# Altium integrated library Altera Cyclone IV GX.IntLib: 21 symbols (part 3 of 3)
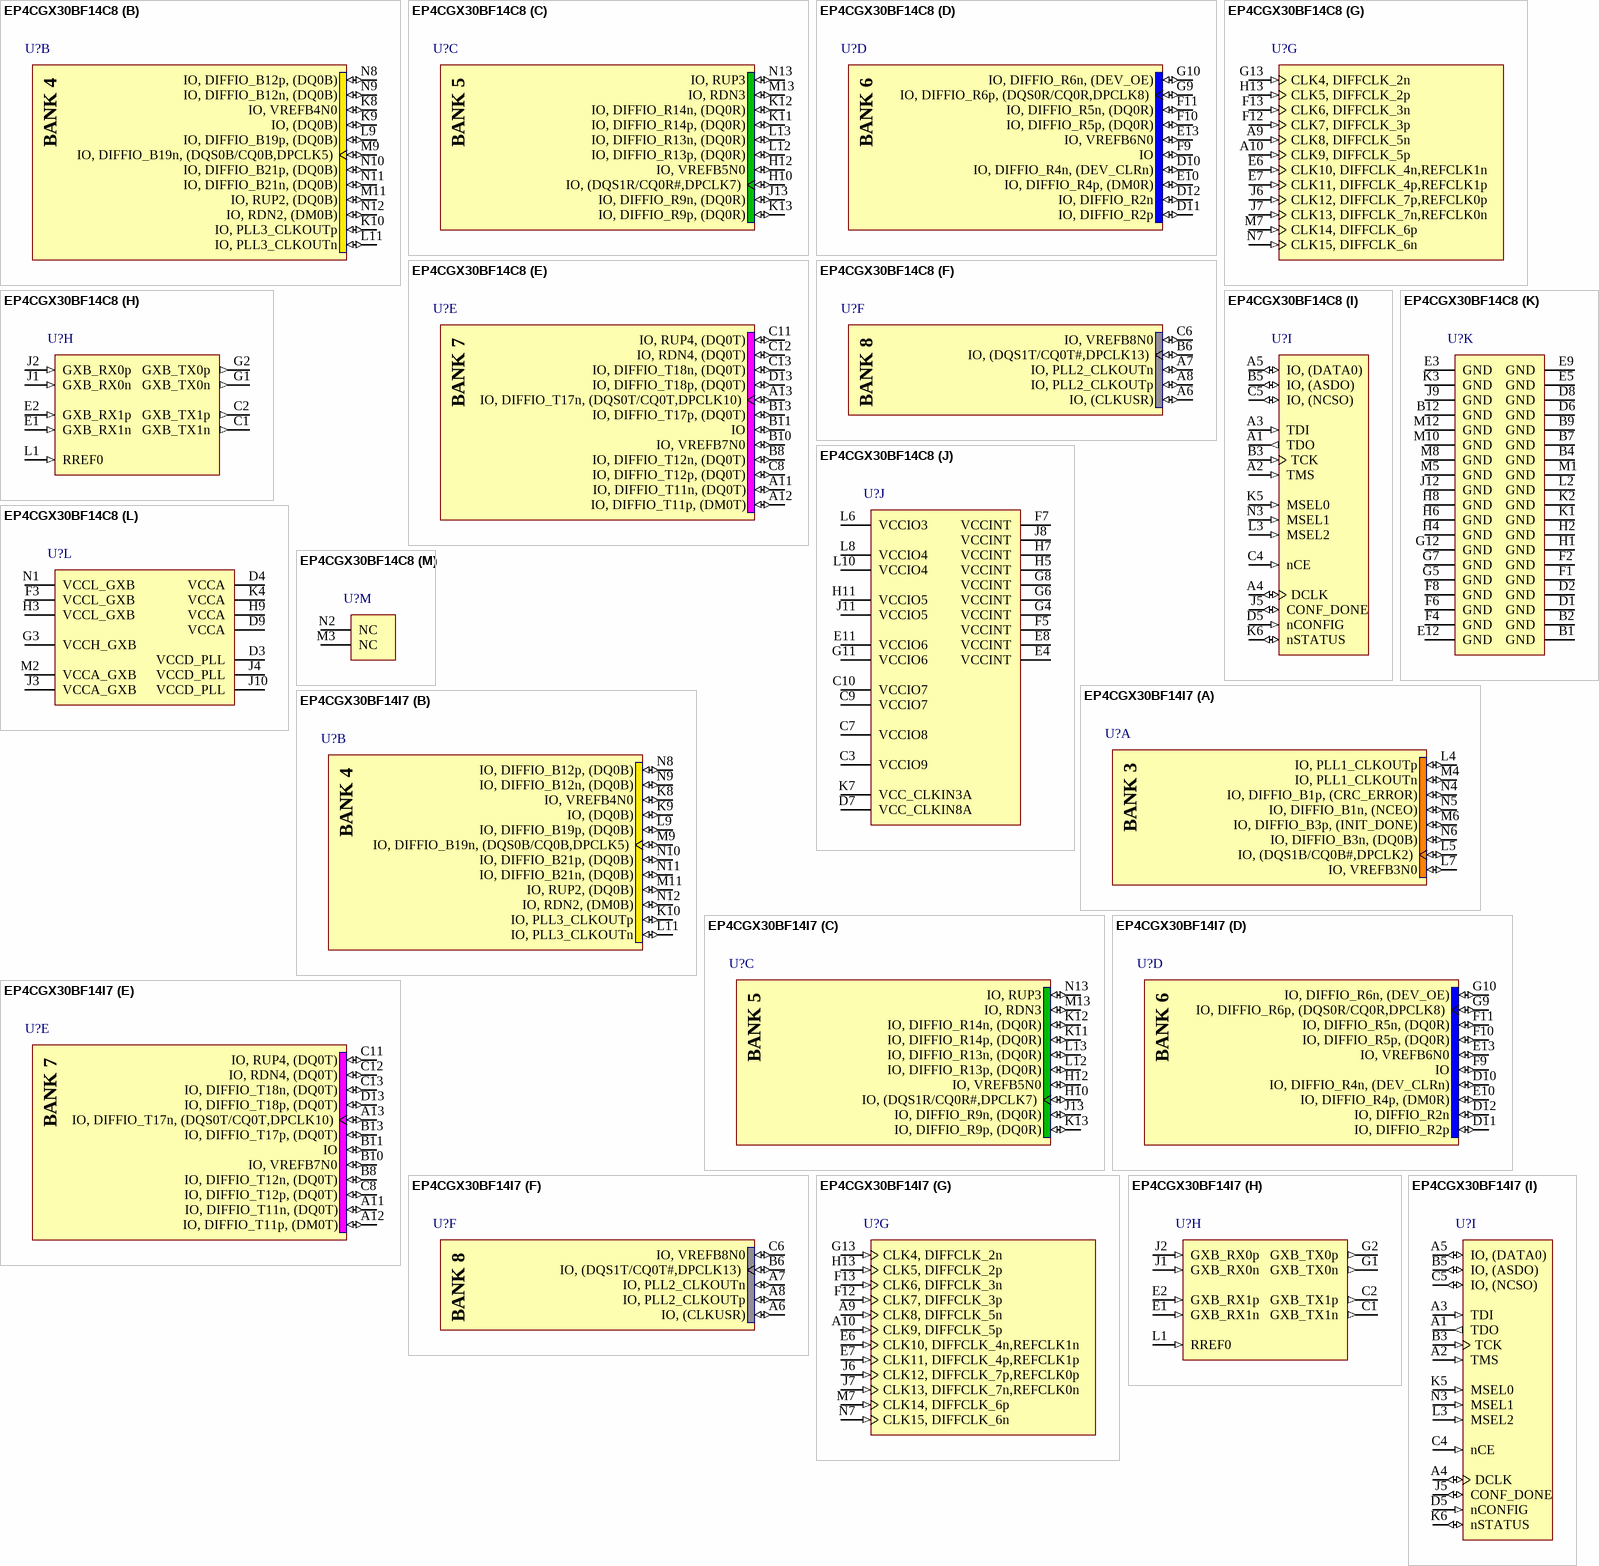
[diagram p18: symbols EP4CGX30BF14C8 to EP4CGX30BF14I7]

## EP4CGX30BF14C8
designator U?
Cyclone IV Family FPGA, 2V Core, 72 I/O Pins, 4 PLLs, 2 High-Speed Transceivers, 169-Pin FBGA, Speed Grade 8, Commercial Grade; Published: 3-May-2010; DatasheetVersion: ver1.2, Mar-2010; PackageVersion: ver16.0, Dec-2009; PackageReference: FBGA169; Publisher: Altium Limited; PackageDescription: 169-Ball FineLine Ball Grid Array (FBGA169) - Wire Bond; ComponentLink1Description: Manufacturer Link; ComponentLink1URL: http://www.altera.com/; ComponentLink2Description: Handbook; ComponentLink2URL: http://www.altera.com/literature/hb/cyclone-iv/cyclone4-handbook.pdf; ComponentLink3Description: Pinout Specification; ComponentLink3URL: http://www.altera.com/literature/lit-dp.jsp?category=cyc%204&showspreadsheet=y; ComponentLink4Description: Packaging Specification; ComponentLink4URL: http://www.altera.com/literature/ds/dspkg.pdf
footprint FBGA169 (BGA, 169-Leads, Body 14x14mm, Pitch 1mm)
signal-integrity model EP4CGX_F169 (Cyclone IV)
part A pins: L4 IO, PLL1_CLKOUTp (io), L5 IO, (DQS1B/CQ0B#,DPCLK2) (io), L7 IO, VREFB3N0 (io), M4 IO, PLL1_CLKOUTn (io), M6 IO, DIFFIO_B3p, (INIT_DONE) (io), N4 IO, DIFFIO_B1p, (CRC_ERROR) (io), N5 IO, DIFFIO_B1n, (NCEO) (io), N6 IO, DIFFIO_B3n, (DQ0B) (io)
part B pins: K8 IO, VREFB4N0 (io), K9 IO, (DQ0B) (io), K10 IO, PLL3_CLKOUTp (io), L9 IO, DIFFIO_B19p, (DQ0B) (io), L11 IO, PLL3_CLKOUTn (io), M9 IO, DIFFIO_B19n, (DQS0B/CQ0B,DPCLK5) (io), M11 IO, RUP2, (DQ0B) (io), N8 IO, DIFFIO_B12p, (DQ0B) (io), N9 IO, DIFFIO_B12n, (DQ0B) (io), N10 IO, DIFFIO_B21p, (DQ0B) (io), N11 IO, DIFFIO_B21n, (DQ0B) (io), N12 IO, RDN2, (DM0B) (io)
part C pins: H10 IO, (DQS1R/CQ0R#,DPCLK7) (io), H12 IO, VREFB5N0 (io), J13 IO, DIFFIO_R9n, (DQ0R) (io), K11 IO, DIFFIO_R14p, (DQ0R) (io), K12 IO, DIFFIO_R14n, (DQ0R) (io), K13 IO, DIFFIO_R9p, (DQ0R) (io), L12 IO, DIFFIO_R13p, (DQ0R) (io), L13 IO, DIFFIO_R13n, (DQ0R) (io), M13 IO, RDN3 (io), N13 IO, RUP3 (io)
part D pins: D10 IO, DIFFIO_R4n, (DEV_CLRn) (io), D11 IO, DIFFIO_R2p (io), D12 IO, DIFFIO_R2n (io), E10 IO, DIFFIO_R4p, (DM0R) (io), E13 IO, VREFB6N0 (io), F9 IO (io), F10 IO, DIFFIO_R5p, (DQ0R) (io), F11 IO, DIFFIO_R5n, (DQ0R) (io), G9 IO, DIFFIO_R6p, (DQS0R/CQ0R,DPCLK8) (io), G10 IO, DIFFIO_R6n, (DEV_OE) (io)
part E pins: A11 IO, DIFFIO_T11n, (DQ0T) (io), A12 IO, DIFFIO_T11p, (DM0T) (io), A13 IO, DIFFIO_T17n, (DQS0T/CQ0T,DPCLK10) (io), B8 IO, DIFFIO_T12n, (DQ0T) (io), B10 IO, VREFB7N0 (io), B11 IO (io), B13 IO, DIFFIO_T17p, (DQ0T) (io), C8 IO, DIFFIO_T12p, (DQ0T) (io), C11 IO, RUP4, (DQ0T) (io), C12 IO, RDN4, (DQ0T) (io), C13 IO, DIFFIO_T18n, (DQ0T) (io), D13 IO, DIFFIO_T18p, (DQ0T) (io)
part F pins: A6 IO, (CLKUSR) (io), A7 IO, PLL2_CLKOUTn (io), A8 IO, PLL2_CLKOUTp (io), B6 IO, (DQS1T/CQ0T#,DPCLK13) (io), C6 IO, VREFB8N0 (io)
part G pins: A9 CLK8, DIFFCLK_5n (in), A10 CLK9, DIFFCLK_5p (in), E6 CLK10, DIFFCLK_4n,REFCLK1n (in), E7 CLK11, DIFFCLK_4p,REFCLK1p (in), F12 CLK7, DIFFCLK_3p (in), F13 CLK6, DIFFCLK_3n (in), G13 CLK4, DIFFCLK_2n (in), H13 CLK5, DIFFCLK_2p (in), J6 CLK12, DIFFCLK_7p,REFCLK0p (in), J7 CLK13, DIFFCLK_7n,REFCLK0n (in), M7 CLK14, DIFFCLK_6p (in), N7 CLK15, DIFFCLK_6n (in)
part H pins: C1 GXB_TX1n (out), C2 GXB_TX1p (out), E1 GXB_RX1n (in), E2 GXB_RX1p (in), G1 GXB_TX0n (out), G2 GXB_TX0p (out), J1 GXB_RX0n (in), J2 GXB_RX0p (in), L1 RREF0 (in)
part I pins: A1 TDO (out), A2 TMS (in), A3 TDI (in), A4 DCLK (io), A5 IO, (DATA0) (io), B3 TCK (in), B5 IO, (ASDO) (io), C4 nCE (in), C5 IO, (NCSO) (io), D5 nCONFIG (in), J5 CONF_DONE (io), K5 MSEL0 (in), K6 nSTATUS (io), L3 MSEL2 (in), N3 MSEL1 (in)
part J pins: C3 VCCIO9 (power), C7 VCCIO8 (power), C9 VCCIO7 (power), C10 VCCIO7 (power), D7 VCC_CLKIN8A (power), E4 VCCINT (power), E8 VCCINT (power), E11 VCCIO6 (power), F5 VCCINT (power), F7 VCCINT (power), G4 VCCINT (power), G6 VCCINT (power), G8 VCCINT (power), G11 VCCIO6 (power), H5 VCCINT (power), H7 VCCINT (power), H11 VCCIO5 (power), J8 VCCINT (power), J11 VCCIO5 (power), K7 VCC_CLKIN3A (power), L6 VCCIO3 (power), L8 VCCIO4 (power), L10 VCCIO4 (power)
part K pins: B1 GND (power), B2 GND (power), B4 GND (power), B7 GND (power), B9 GND (power), B12 GND (power), D1 GND (power), D2 GND (power), D6 GND (power), D8 GND (power), E3 GND (power), E5 GND (power), E9 GND (power), E12 GND (power), F1 GND (power), F2 GND (power), F4 GND (power), F6 GND (power), F8 GND (power), G5 GND (power), G7 GND (power), G12 GND (power), H1 GND (power), H2 GND (power), H4 GND (power), H6 GND (power), H8 GND (power), J9 GND (power), J12 GND (power), K1 GND (power), K2 GND (power), K3 GND (power), L2 GND (power), M1 GND (power), M5 GND (power), M8 GND (power), M10 GND (power), M12 GND (power)
part L pins: D3 VCCD_PLL (power), D4 VCCA (power), D9 VCCA (power), F3 VCCL_GXB (power), G3 VCCH_GXB (power), H3 VCCL_GXB (power), H9 VCCA (power), J3 VCCA_GXB (power), J4 VCCD_PLL (power), J10 VCCD_PLL (power), K4 VCCA (power), M2 VCCA_GXB (power), N1 VCCL_GXB (power)
part M pins: M3 NC, N2 NC
part A text: BANK 3
part B text: BANK 4
part C text: BANK 5
part D text: BANK 6
part E text: BANK 7
part F text: BANK 8

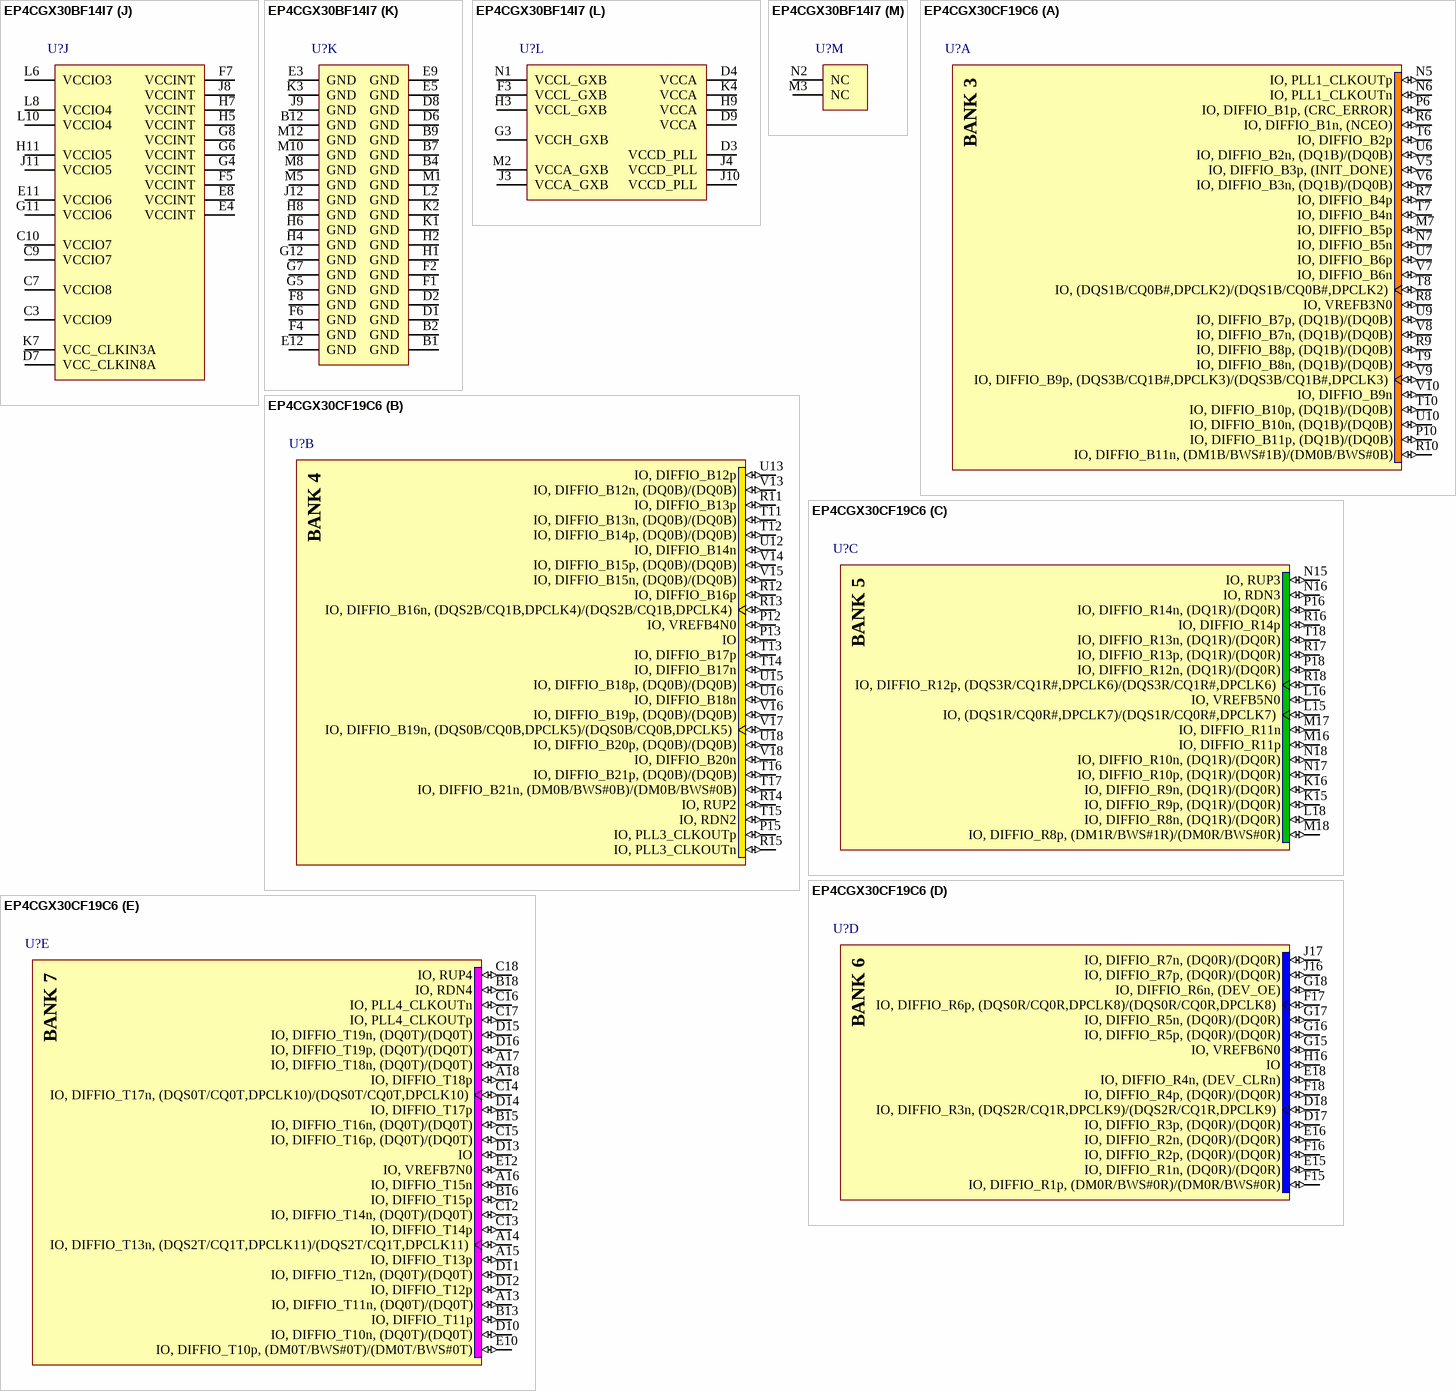
[diagram p12: symbols EP4CGX30BF14I7 to EP4CGX30CF19C6]

## EP4CGX30BF14I7
designator U?
Cyclone IV Family FPGA, 2V Core, 72 I/O Pins, 4 PLLs, 2 High-Speed Transceivers, 169-Pin FBGA, Speed Grade 7, Industrial Grade; Published: 3-May-2010; DatasheetVersion: ver1.2, Mar-2010; PackageVersion: ver16.0, Dec-2009; PackageReference: FBGA169; Publisher: Altium Limited; PackageDescription: 169-Ball FineLine Ball Grid Array (FBGA169) - Wire Bond; ComponentLink1Description: Manufacturer Link; ComponentLink1URL: http://www.altera.com/; ComponentLink2Description: Handbook; ComponentLink2URL: http://www.altera.com/literature/hb/cyclone-iv/cyclone4-handbook.pdf; ComponentLink3Description: Pinout Specification; ComponentLink3URL: http://www.altera.com/literature/lit-dp.jsp?category=cyc%204&showspreadsheet=y; ComponentLink4Description: Packaging Specification; ComponentLink4URL: http://www.altera.com/literature/ds/dspkg.pdf
footprint FBGA169 (BGA, 169-Leads, Body 14x14mm, Pitch 1mm)
signal-integrity model EP4CGX_F169 (Cyclone IV)
part A pins: L4 IO, PLL1_CLKOUTp (io), L5 IO, (DQS1B/CQ0B#,DPCLK2) (io), L7 IO, VREFB3N0 (io), M4 IO, PLL1_CLKOUTn (io), M6 IO, DIFFIO_B3p, (INIT_DONE) (io), N4 IO, DIFFIO_B1p, (CRC_ERROR) (io), N5 IO, DIFFIO_B1n, (NCEO) (io), N6 IO, DIFFIO_B3n, (DQ0B) (io)
part B pins: K8 IO, VREFB4N0 (io), K9 IO, (DQ0B) (io), K10 IO, PLL3_CLKOUTp (io), L9 IO, DIFFIO_B19p, (DQ0B) (io), L11 IO, PLL3_CLKOUTn (io), M9 IO, DIFFIO_B19n, (DQS0B/CQ0B,DPCLK5) (io), M11 IO, RUP2, (DQ0B) (io), N8 IO, DIFFIO_B12p, (DQ0B) (io), N9 IO, DIFFIO_B12n, (DQ0B) (io), N10 IO, DIFFIO_B21p, (DQ0B) (io), N11 IO, DIFFIO_B21n, (DQ0B) (io), N12 IO, RDN2, (DM0B) (io)
part C pins: H10 IO, (DQS1R/CQ0R#,DPCLK7) (io), H12 IO, VREFB5N0 (io), J13 IO, DIFFIO_R9n, (DQ0R) (io), K11 IO, DIFFIO_R14p, (DQ0R) (io), K12 IO, DIFFIO_R14n, (DQ0R) (io), K13 IO, DIFFIO_R9p, (DQ0R) (io), L12 IO, DIFFIO_R13p, (DQ0R) (io), L13 IO, DIFFIO_R13n, (DQ0R) (io), M13 IO, RDN3 (io), N13 IO, RUP3 (io)
part D pins: D10 IO, DIFFIO_R4n, (DEV_CLRn) (io), D11 IO, DIFFIO_R2p (io), D12 IO, DIFFIO_R2n (io), E10 IO, DIFFIO_R4p, (DM0R) (io), E13 IO, VREFB6N0 (io), F9 IO (io), F10 IO, DIFFIO_R5p, (DQ0R) (io), F11 IO, DIFFIO_R5n, (DQ0R) (io), G9 IO, DIFFIO_R6p, (DQS0R/CQ0R,DPCLK8) (io), G10 IO, DIFFIO_R6n, (DEV_OE) (io)
part E pins: A11 IO, DIFFIO_T11n, (DQ0T) (io), A12 IO, DIFFIO_T11p, (DM0T) (io), A13 IO, DIFFIO_T17n, (DQS0T/CQ0T,DPCLK10) (io), B8 IO, DIFFIO_T12n, (DQ0T) (io), B10 IO, VREFB7N0 (io), B11 IO (io), B13 IO, DIFFIO_T17p, (DQ0T) (io), C8 IO, DIFFIO_T12p, (DQ0T) (io), C11 IO, RUP4, (DQ0T) (io), C12 IO, RDN4, (DQ0T) (io), C13 IO, DIFFIO_T18n, (DQ0T) (io), D13 IO, DIFFIO_T18p, (DQ0T) (io)
part F pins: A6 IO, (CLKUSR) (io), A7 IO, PLL2_CLKOUTn (io), A8 IO, PLL2_CLKOUTp (io), B6 IO, (DQS1T/CQ0T#,DPCLK13) (io), C6 IO, VREFB8N0 (io)
part G pins: A9 CLK8, DIFFCLK_5n (in), A10 CLK9, DIFFCLK_5p (in), E6 CLK10, DIFFCLK_4n,REFCLK1n (in), E7 CLK11, DIFFCLK_4p,REFCLK1p (in), F12 CLK7, DIFFCLK_3p (in), F13 CLK6, DIFFCLK_3n (in), G13 CLK4, DIFFCLK_2n (in), H13 CLK5, DIFFCLK_2p (in), J6 CLK12, DIFFCLK_7p,REFCLK0p (in), J7 CLK13, DIFFCLK_7n,REFCLK0n (in), M7 CLK14, DIFFCLK_6p (in), N7 CLK15, DIFFCLK_6n (in)
part H pins: C1 GXB_TX1n (out), C2 GXB_TX1p (out), E1 GXB_RX1n (in), E2 GXB_RX1p (in), G1 GXB_TX0n (out), G2 GXB_TX0p (out), J1 GXB_RX0n (in), J2 GXB_RX0p (in), L1 RREF0 (in)
part I pins: A1 TDO (out), A2 TMS (in), A3 TDI (in), A4 DCLK (io), A5 IO, (DATA0) (io), B3 TCK (in), B5 IO, (ASDO) (io), C4 nCE (in), C5 IO, (NCSO) (io), D5 nCONFIG (in), J5 CONF_DONE (io), K5 MSEL0 (in), K6 nSTATUS (io), L3 MSEL2 (in), N3 MSEL1 (in)
part J pins: C3 VCCIO9 (power), C7 VCCIO8 (power), C9 VCCIO7 (power), C10 VCCIO7 (power), D7 VCC_CLKIN8A (power), E4 VCCINT (power), E8 VCCINT (power), E11 VCCIO6 (power), F5 VCCINT (power), F7 VCCINT (power), G4 VCCINT (power), G6 VCCINT (power), G8 VCCINT (power), G11 VCCIO6 (power), H5 VCCINT (power), H7 VCCINT (power), H11 VCCIO5 (power), J8 VCCINT (power), J11 VCCIO5 (power), K7 VCC_CLKIN3A (power), L6 VCCIO3 (power), L8 VCCIO4 (power), L10 VCCIO4 (power)
part K pins: B1 GND (power), B2 GND (power), B4 GND (power), B7 GND (power), B9 GND (power), B12 GND (power), D1 GND (power), D2 GND (power), D6 GND (power), D8 GND (power), E3 GND (power), E5 GND (power), E9 GND (power), E12 GND (power), F1 GND (power), F2 GND (power), F4 GND (power), F6 GND (power), F8 GND (power), G5 GND (power), G7 GND (power), G12 GND (power), H1 GND (power), H2 GND (power), H4 GND (power), H6 GND (power), H8 GND (power), J9 GND (power), J12 GND (power), K1 GND (power), K2 GND (power), K3 GND (power), L2 GND (power), M1 GND (power), M5 GND (power), M8 GND (power), M10 GND (power), M12 GND (power)
part L pins: D3 VCCD_PLL (power), D4 VCCA (power), D9 VCCA (power), F3 VCCL_GXB (power), G3 VCCH_GXB (power), H3 VCCL_GXB (power), H9 VCCA (power), J3 VCCA_GXB (power), J4 VCCD_PLL (power), J10 VCCD_PLL (power), K4 VCCA (power), M2 VCCA_GXB (power), N1 VCCL_GXB (power)
part M pins: M3 NC, N2 NC
part A text: BANK 3
part B text: BANK 4
part C text: BANK 5
part D text: BANK 6
part E text: BANK 7
part F text: BANK 8

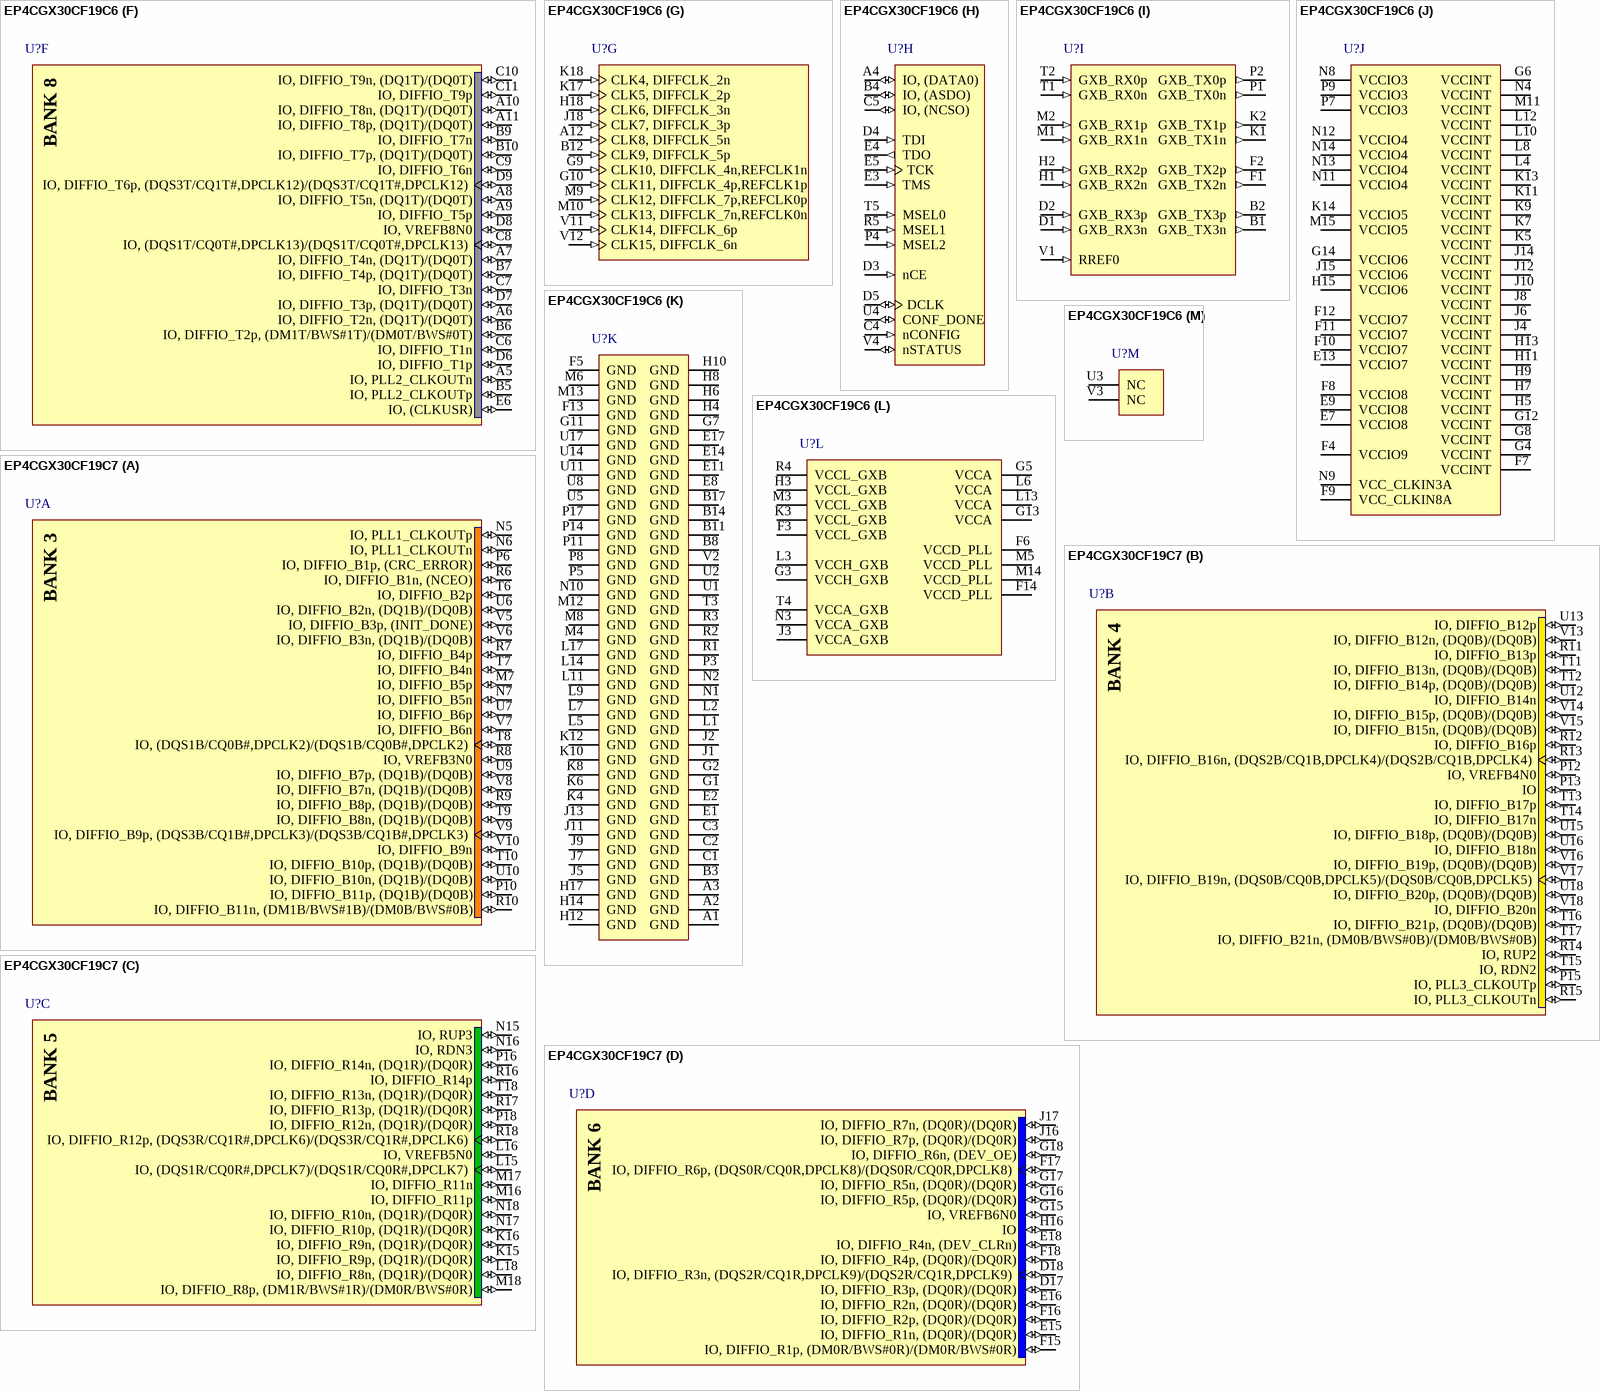
[diagram p13: symbols EP4CGX30CF19C6 to EP4CGX30CF19C7]

## EP4CGX30CF19C6
designator U?
Cyclone IV Family FPGA, 2V Core, 150 I/O Pins, 4 PLLs, 4 High-Speed Transceivers, 324-Pin FBGA, Speed Grade 6, Commercial Grade; Published: 3-May-2010; DatasheetVersion: ver1.2, Mar-2010; PackageVersion: ver16.0, Dec-2009; PackageReference: FBGA324; Publisher: Altium Limited; PackageDescription: 324-Ball FineLine Ball Grid Array (FBGA324) - Wire Bond; Code_JEDEC: MS-034-AAG-1; Code_IPC: BGA100P18X18-324; ComponentLink1Description: Manufacturer Link; ComponentLink1URL: http://www.altera.com/; ComponentLink2Description: Handbook; ComponentLink2URL: http://www.altera.com/literature/hb/cyclone-iv/cyclone4-handbook.pdf; ComponentLink3Description: Pinout Specification; ComponentLink3URL: http://www.altera.com/literature/lit-dp.jsp?category=cyc%204&showspreadsheet=y; ComponentLink4Description: Packaging Specification; ComponentLink4URL: http://www.altera.com/literature/ds/dspkg.pdf
footprint FBGA324 (BGA, 324-Leads, Body 19x19mm, Pitch 1mm)
signal-integrity model EP4CGX_F324 (Cyclone IV)
part A pins: M7 IO, DIFFIO_B5p (io), N5 IO, PLL1_CLKOUTp (io), N6 IO, PLL1_CLKOUTn (io), N7 IO, DIFFIO_B5n (io), P6 IO, DIFFIO_B1p, (CRC_ERROR) (io), P10 IO, DIFFIO_B11p, (DQ1B)/(DQ0B) (io), R6 IO, DIFFIO_B1n, (NCEO) (io), R7 IO, DIFFIO_B4p (io), R8 IO, VREFB3N0 (io), R9 IO, DIFFIO_B8p, (DQ1B)/(DQ0B) (io), R10 IO, DIFFIO_B11n, (DM1B/BWS#1B)/(DM0B/BWS#0B) (io), T6 IO, DIFFIO_B2p (io), T7 IO, DIFFIO_B4n (io), T8 IO, (DQS1B/CQ0B#,DPCLK2)/(DQS1B/CQ0B#,DPCLK2) (io), T9 IO, DIFFIO_B8n, (DQ1B)/(DQ0B) (io), T10 IO, DIFFIO_B10p, (DQ1B)/(DQ0B) (io), U6 IO, DIFFIO_B2n, (DQ1B)/(DQ0B) (io), U7 IO, DIFFIO_B6p (io), U9 IO, DIFFIO_B7p, (DQ1B)/(DQ0B) (io), U10 IO, DIFFIO_B10n, (DQ1B)/(DQ0B) (io), V5 IO, DIFFIO_B3p, (INIT_DONE) (io), V6 IO, DIFFIO_B3n, (DQ1B)/(DQ0B) (io), V7 IO, DIFFIO_B6n (io), V8 IO, DIFFIO_B7n, (DQ1B)/(DQ0B) (io), V9 IO, DIFFIO_B9p, (DQS3B/CQ1B#,DPCLK3)/(DQS3B/CQ1B#,DPCLK3) (io), V10 IO, DIFFIO_B9n (io)
part B pins: P12 IO, VREFB4N0 (io), P13 IO (io), P15 IO, PLL3_CLKOUTp (io), R11 IO, DIFFIO_B13p (io), R12 IO, DIFFIO_B16p (io), R13 IO, DIFFIO_B16n, (DQS2B/CQ1B,DPCLK4)/(DQS2B/CQ1B,DPCLK4) (io), R14 IO, RUP2 (io), R15 IO, PLL3_CLKOUTn (io), T11 IO, DIFFIO_B13n, (DQ0B)/(DQ0B) (io), T12 IO, DIFFIO_B14p, (DQ0B)/(DQ0B) (io), T13 IO, DIFFIO_B17p (io), T14 IO, DIFFIO_B17n (io), T15 IO, RDN2 (io), T16 IO, DIFFIO_B21p, (DQ0B)/(DQ0B) (io), T17 IO, DIFFIO_B21n, (DM0B/BWS#0B)/(DM0B/BWS#0B) (io), U12 IO, DIFFIO_B14n (io), U13 IO, DIFFIO_B12p (io), U15 IO, DIFFIO_B18p, (DQ0B)/(DQ0B) (io), U16 IO, DIFFIO_B18n (io), U18 IO, DIFFIO_B20p, (DQ0B)/(DQ0B) (io), V13 IO, DIFFIO_B12n, (DQ0B)/(DQ0B) (io), V14 IO, DIFFIO_B15p, (DQ0B)/(DQ0B) (io), V15 IO, DIFFIO_B15n, (DQ0B)/(DQ0B) (io), V16 IO, DIFFIO_B19p, (DQ0B)/(DQ0B) (io), V17 IO, DIFFIO_B19n, (DQS0B/CQ0B,DPCLK5)/(DQS0B/CQ0B,DPCLK5) (io), V18 IO, DIFFIO_B20n (io)
part C pins: K15 IO, DIFFIO_R9p, (DQ1R)/(DQ0R) (io), K16 IO, DIFFIO_R9n, (DQ1R)/(DQ0R) (io), L15 IO, (DQS1R/CQ0R#,DPCLK7)/(DQS1R/CQ0R#,DPCLK7) (io), L16 IO, VREFB5N0 (io), L18 IO, DIFFIO_R8n, (DQ1R)/(DQ0R) (io), M16 IO, DIFFIO_R11p (io), M17 IO, DIFFIO_R11n (io), M18 IO, DIFFIO_R8p, (DM1R/BWS#1R)/(DM0R/BWS#0R) (io), N15 IO, RUP3 (io), N16 IO, RDN3 (io), N17 IO, DIFFIO_R10p, (DQ1R)/(DQ0R) (io), N18 IO, DIFFIO_R10n, (DQ1R)/(DQ0R) (io), P16 IO, DIFFIO_R14n, (DQ1R)/(DQ0R) (io), P18 IO, DIFFIO_R12n, (DQ1R)/(DQ0R) (io), R16 IO, DIFFIO_R14p (io), R17 IO, DIFFIO_R13p, (DQ1R)/(DQ0R) (io), R18 IO, DIFFIO_R12p, (DQS3R/CQ1R#,DPCLK6)/(DQS3R/CQ1R#,DPCLK6) (io), T18 IO, DIFFIO_R13n, (DQ1R)/(DQ0R) (io)
part D pins: D17 IO, DIFFIO_R3p, (DQ0R)/(DQ0R) (io), D18 IO, DIFFIO_R3n, (DQS2R/CQ1R,DPCLK9)/(DQS2R/CQ1R,DPCLK9) (io), E15 IO, DIFFIO_R1n, (DQ0R)/(DQ0R) (io), E16 IO, DIFFIO_R2n, (DQ0R)/(DQ0R) (io), E18 IO, DIFFIO_R4n, (DEV_CLRn) (io), F15 IO, DIFFIO_R1p, (DM0R/BWS#0R)/(DM0R/BWS#0R) (io), F16 IO, DIFFIO_R2p, (DQ0R)/(DQ0R) (io), F17 IO, DIFFIO_R6p, (DQS0R/CQ0R,DPCLK8)/(DQS0R/CQ0R,DPCLK8) (io), F18 IO, DIFFIO_R4p, (DQ0R)/(DQ0R) (io), G15 IO, VREFB6N0 (io), G16 IO, DIFFIO_R5p, (DQ0R)/(DQ0R) (io), G17 IO, DIFFIO_R5n, (DQ0R)/(DQ0R) (io), G18 IO, DIFFIO_R6n, (DEV_OE) (io), H16 IO (io), J16 IO, DIFFIO_R7p, (DQ0R)/(DQ0R) (io), J17 IO, DIFFIO_R7n, (DQ0R)/(DQ0R) (io)
part E pins: A13 IO, DIFFIO_T11n, (DQ0T)/(DQ0T) (io), A14 IO, DIFFIO_T13n, (DQS2T/CQ1T,DPCLK11)/(DQS2T/CQ1T,DPCLK11) (io), A15 IO, DIFFIO_T13p (io), A16 IO, DIFFIO_T15n (io), A17 IO, DIFFIO_T18n, (DQ0T)/(DQ0T) (io), A18 IO, DIFFIO_T18p (io), B13 IO, DIFFIO_T11p (io), B15 IO, DIFFIO_T16n, (DQ0T)/(DQ0T) (io), B16 IO, DIFFIO_T15p (io), B18 IO, RDN4 (io), C12 IO, DIFFIO_T14n, (DQ0T)/(DQ0T) (io), C13 IO, DIFFIO_T14p (io), C14 IO, DIFFIO_T17n, (DQS0T/CQ0T,DPCLK10)/(DQS0T/CQ0T,DPCLK10) (io), C15 IO, DIFFIO_T16p, (DQ0T)/(DQ0T) (io), C16 IO, PLL4_CLKOUTn (io), C17 IO, PLL4_CLKOUTp (io), C18 IO, RUP4 (io), D10 IO, DIFFIO_T10n, (DQ0T)/(DQ0T) (io), D11 IO, DIFFIO_T12n, (DQ0T)/(DQ0T) (io), D12 IO, DIFFIO_T12p (io), D13 IO (io), D14 IO, DIFFIO_T17p (io), D15 IO, DIFFIO_T19n, (DQ0T)/(DQ0T) (io), D16 IO, DIFFIO_T19p, (DQ0T)/(DQ0T) (io), E10 IO, DIFFIO_T10p, (DM0T/BWS#0T)/(DM0T/BWS#0T) (io), E12 IO, VREFB7N0 (io)
part F pins: A5 IO, PLL2_CLKOUTn (io), A6 IO, DIFFIO_T2n, (DQ1T)/(DQ0T) (io), A7 IO, DIFFIO_T4n, (DQ1T)/(DQ0T) (io), A8 IO, DIFFIO_T5n, (DQ1T)/(DQ0T) (io), A9 IO, DIFFIO_T5p (io), A10 IO, DIFFIO_T8n, (DQ1T)/(DQ0T) (io), A11 IO, DIFFIO_T8p, (DQ1T)/(DQ0T) (io), B5 IO, PLL2_CLKOUTp (io), B6 IO, DIFFIO_T2p, (DM1T/BWS#1T)/(DM0T/BWS#0T) (io), B7 IO, DIFFIO_T4p, (DQ1T)/(DQ0T) (io), B9 IO, DIFFIO_T7n (io), B10 IO, DIFFIO_T7p, (DQ1T)/(DQ0T) (io), C6 IO, DIFFIO_T1n (io), C7 IO, DIFFIO_T3n (io), C8 IO, (DQS1T/CQ0T#,DPCLK13)/(DQS1T/CQ0T#,DPCLK13) (io), C9 IO, DIFFIO_T6n (io), C10 IO, DIFFIO_T9n, (DQ1T)/(DQ0T) (io), C11 IO, DIFFIO_T9p (io), D6 IO, DIFFIO_T1p (io), D7 IO, DIFFIO_T3p, (DQ1T)/(DQ0T) (io), D8 IO, VREFB8N0 (io), D9 IO, DIFFIO_T6p, (DQS3T/CQ1T#,DPCLK12)/(DQS3T/CQ1T#,DPCLK12) (io), E6 IO, (CLKUSR) (io)
part G pins: A12 CLK8, DIFFCLK_5n (in), B12 CLK9, DIFFCLK_5p (in), G9 CLK10, DIFFCLK_4n,REFCLK1n (in), G10 CLK11, DIFFCLK_4p,REFCLK1p (in), H18 CLK6, DIFFCLK_3n (in), J18 CLK7, DIFFCLK_3p (in), K17 CLK5, DIFFCLK_2p (in), K18 CLK4, DIFFCLK_2n (in), M9 CLK12, DIFFCLK_7p,REFCLK0p (in), M10 CLK13, DIFFCLK_7n,REFCLK0n (in), V11 CLK14, DIFFCLK_6p (in), V12 CLK15, DIFFCLK_6n (in)
part H pins: A4 IO, (DATA0) (io), B4 IO, (ASDO) (io), C4 nCONFIG (in), C5 IO, (NCSO) (io), D3 nCE (in), D4 TDI (in), D5 DCLK (io), E3 TMS (in), E4 TDO (out), E5 TCK (in), P4 MSEL2 (in), R5 MSEL1 (in), T5 MSEL0 (in), U4 CONF_DONE (io), V4 nSTATUS (io)
part I pins: B1 GXB_TX3n (out), B2 GXB_TX3p (out), D1 GXB_RX3n (in), D2 GXB_RX3p (in), F1 GXB_TX2n (out), F2 GXB_TX2p (out), H1 GXB_RX2n (in), H2 GXB_RX2p (in), K1 GXB_TX1n (out), K2 GXB_TX1p (out), M1 GXB_RX1n (in), M2 GXB_RX1p (in), P1 GXB_TX0n (out), P2 GXB_TX0p (out), T1 GXB_RX0n (in), T2 GXB_RX0p (in), V1 RREF0 (in)
part J pins: E7 VCCIO8 (power), E9 VCCIO8 (power), E13 VCCIO7 (power), F4 VCCIO9 (power), F7 VCCINT (power), F8 VCCIO8 (power), F9 VCC_CLKIN8A (power), F10 VCCIO7 (power), F11 VCCIO7 (power), F12 VCCIO7 (power), G4 VCCINT (power), G6 VCCINT (power), G8 VCCINT (power), G12 VCCINT (power), G14 VCCIO6 (power), H5 VCCINT (power), H7 VCCINT (power), H9 VCCINT (power), H11 VCCINT (power), H13 VCCINT (power), H15 VCCIO6 (power), J4 VCCINT (power), J6 VCCINT (power), J8 VCCINT (power), J10 VCCINT (power), J12 VCCINT (power), J14 VCCINT (power), J15 VCCIO6 (power), K5 VCCINT (power), K7 VCCINT (power), K9 VCCINT (power), K11 VCCINT (power), K13 VCCINT (power), K14 VCCIO5 (power), L4 VCCINT (power), L8 VCCINT (power), L10 VCCINT (power), L12 VCCINT (power), M11 VCCINT (power), M15 VCCIO5 (power), N4 VCCINT (power), N8 VCCIO3 (power), N9 VCC_CLKIN3A (power), N11 VCCIO4 (power), N12 VCCIO4 (power), N13 VCCIO4 (power), N14 VCCIO4 (power), P7 VCCIO3 (power), P9 VCCIO3 (power)
part K pins: A1 GND (power), A2 GND (power), A3 GND (power), B3 GND (power), B8 GND (power), B11 GND (power), B14 GND (power), B17 GND (power), C1 GND (power), C2 GND (power), C3 GND (power), E1 GND (power), E2 GND (power), E8 GND (power), E11 GND (power), E14 GND (power), E17 GND (power), F5 GND (power), F13 GND (power), G1 GND (power), G2 GND (power), G7 GND (power), G11 GND (power), H4 GND (power), H6 GND (power), H8 GND (power), H10 GND (power), H12 GND (power), H14 GND (power), H17 GND (power), J1 GND (power), J2 GND (power), J5 GND (power), J7 GND (power), J9 GND (power), J11 GND (power), J13 GND (power), K4 GND (power), K6 GND (power), K8 GND (power), K10 GND (power), K12 GND (power), L1 GND (power), L2 GND (power), L5 GND (power), L7 GND (power), L9 GND (power), L11 GND (power), L14 GND (power), L17 GND (power), M4 GND (power), M6 GND (power), M8 GND (power), M12 GND (power), M13 GND (power), N1 GND (power), N2 GND (power), N10 GND (power), P3 GND (power), P5 GND (power), P8 GND (power), P11 GND (power), P14 GND (power), P17 GND (power), R1 GND (power), R2 GND (power), R3 GND (power), T3 GND (power), U1 GND (power), U2 GND (power), U5 GND (power), U8 GND (power), U11 GND (power), U14 GND (power), U17 GND (power), V2 GND (power)
part L pins: F3 VCCL_GXB (power), F6 VCCD_PLL (power), F14 VCCD_PLL (power), G3 VCCH_GXB (power), G5 VCCA (power), G13 VCCA (power), H3 VCCL_GXB (power), J3 VCCA_GXB (power), K3 VCCL_GXB (power), L3 VCCH_GXB (power), L6 VCCA (power), L13 VCCA (power), M3 VCCL_GXB (power), M5 VCCD_PLL (power), M14 VCCD_PLL (power), N3 VCCA_GXB (power), R4 VCCL_GXB (power), T4 VCCA_GXB (power)
part M pins: U3 NC, V3 NC
part A text: BANK 3
part B text: BANK 4
part C text: BANK 5
part D text: BANK 6
part E text: BANK 7
part F text: BANK 8

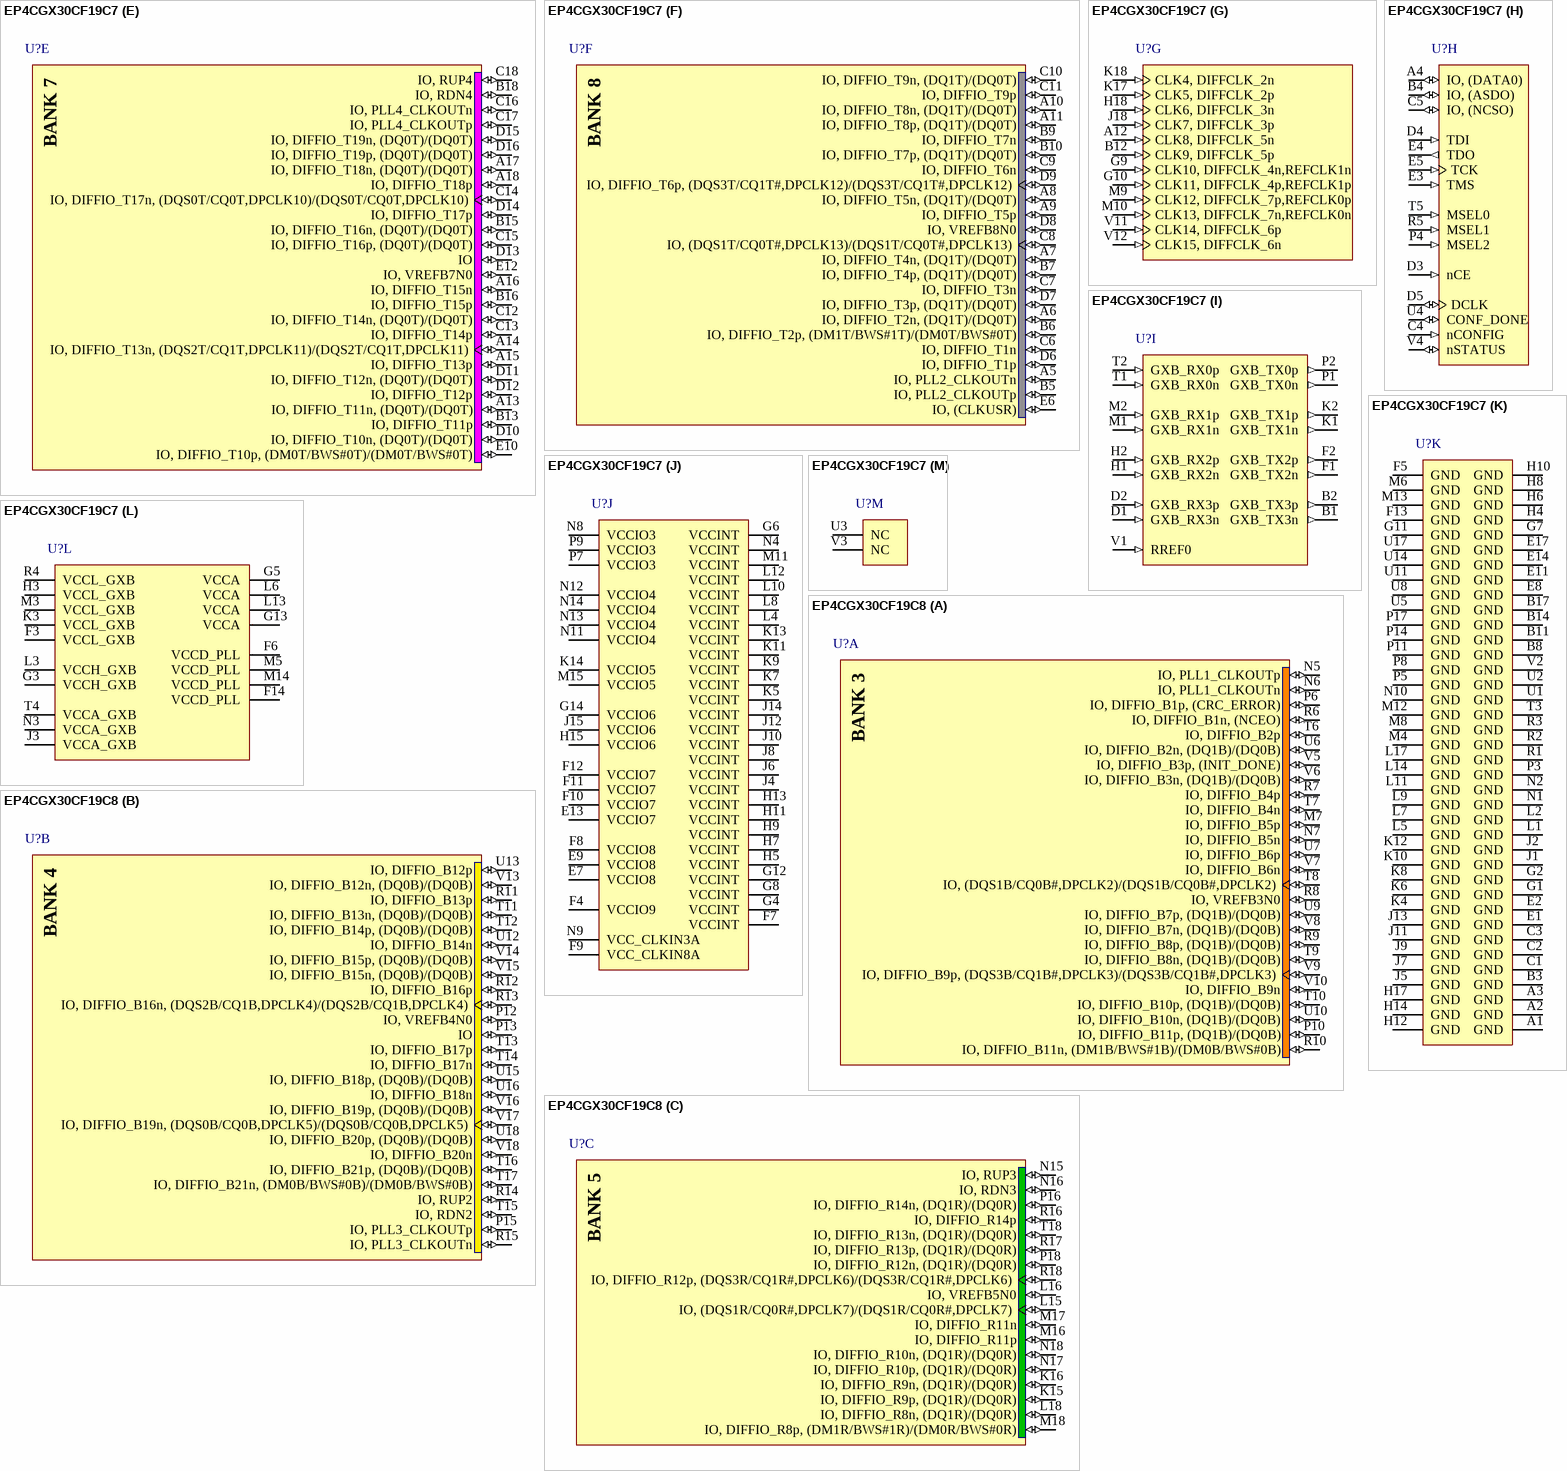
[diagram p14: symbols EP4CGX30CF19C7 to EP4CGX30CF19C8]

## EP4CGX30CF19C7
designator U?
Cyclone IV Family FPGA, 2V Core, 150 I/O Pins, 4 PLLs, 4 High-Speed Transceivers, 324-Pin FBGA, Speed Grade 7, Commercial Grade; Published: 3-May-2010; DatasheetVersion: ver1.2, Mar-2010; PackageVersion: ver16.0, Dec-2009; PackageReference: FBGA324; Publisher: Altium Limited; PackageDescription: 324-Ball FineLine Ball Grid Array (FBGA324) - Wire Bond; Code_JEDEC: MS-034-AAG-1; Code_IPC: BGA100P18X18-324; ComponentLink1Description: Manufacturer Link; ComponentLink1URL: http://www.altera.com/; ComponentLink2Description: Handbook; ComponentLink2URL: http://www.altera.com/literature/hb/cyclone-iv/cyclone4-handbook.pdf; ComponentLink3Description: Pinout Specification; ComponentLink3URL: http://www.altera.com/literature/lit-dp.jsp?category=cyc%204&showspreadsheet=y; ComponentLink4Description: Packaging Specification; ComponentLink4URL: http://www.altera.com/literature/ds/dspkg.pdf
footprint FBGA324 (BGA, 324-Leads, Body 19x19mm, Pitch 1mm)
signal-integrity model EP4CGX_F324 (Cyclone IV)
part A pins: M7 IO, DIFFIO_B5p (io), N5 IO, PLL1_CLKOUTp (io), N6 IO, PLL1_CLKOUTn (io), N7 IO, DIFFIO_B5n (io), P6 IO, DIFFIO_B1p, (CRC_ERROR) (io), P10 IO, DIFFIO_B11p, (DQ1B)/(DQ0B) (io), R6 IO, DIFFIO_B1n, (NCEO) (io), R7 IO, DIFFIO_B4p (io), R8 IO, VREFB3N0 (io), R9 IO, DIFFIO_B8p, (DQ1B)/(DQ0B) (io), R10 IO, DIFFIO_B11n, (DM1B/BWS#1B)/(DM0B/BWS#0B) (io), T6 IO, DIFFIO_B2p (io), T7 IO, DIFFIO_B4n (io), T8 IO, (DQS1B/CQ0B#,DPCLK2)/(DQS1B/CQ0B#,DPCLK2) (io), T9 IO, DIFFIO_B8n, (DQ1B)/(DQ0B) (io), T10 IO, DIFFIO_B10p, (DQ1B)/(DQ0B) (io), U6 IO, DIFFIO_B2n, (DQ1B)/(DQ0B) (io), U7 IO, DIFFIO_B6p (io), U9 IO, DIFFIO_B7p, (DQ1B)/(DQ0B) (io), U10 IO, DIFFIO_B10n, (DQ1B)/(DQ0B) (io), V5 IO, DIFFIO_B3p, (INIT_DONE) (io), V6 IO, DIFFIO_B3n, (DQ1B)/(DQ0B) (io), V7 IO, DIFFIO_B6n (io), V8 IO, DIFFIO_B7n, (DQ1B)/(DQ0B) (io), V9 IO, DIFFIO_B9p, (DQS3B/CQ1B#,DPCLK3)/(DQS3B/CQ1B#,DPCLK3) (io), V10 IO, DIFFIO_B9n (io)
part B pins: P12 IO, VREFB4N0 (io), P13 IO (io), P15 IO, PLL3_CLKOUTp (io), R11 IO, DIFFIO_B13p (io), R12 IO, DIFFIO_B16p (io), R13 IO, DIFFIO_B16n, (DQS2B/CQ1B,DPCLK4)/(DQS2B/CQ1B,DPCLK4) (io), R14 IO, RUP2 (io), R15 IO, PLL3_CLKOUTn (io), T11 IO, DIFFIO_B13n, (DQ0B)/(DQ0B) (io), T12 IO, DIFFIO_B14p, (DQ0B)/(DQ0B) (io), T13 IO, DIFFIO_B17p (io), T14 IO, DIFFIO_B17n (io), T15 IO, RDN2 (io), T16 IO, DIFFIO_B21p, (DQ0B)/(DQ0B) (io), T17 IO, DIFFIO_B21n, (DM0B/BWS#0B)/(DM0B/BWS#0B) (io), U12 IO, DIFFIO_B14n (io), U13 IO, DIFFIO_B12p (io), U15 IO, DIFFIO_B18p, (DQ0B)/(DQ0B) (io), U16 IO, DIFFIO_B18n (io), U18 IO, DIFFIO_B20p, (DQ0B)/(DQ0B) (io), V13 IO, DIFFIO_B12n, (DQ0B)/(DQ0B) (io), V14 IO, DIFFIO_B15p, (DQ0B)/(DQ0B) (io), V15 IO, DIFFIO_B15n, (DQ0B)/(DQ0B) (io), V16 IO, DIFFIO_B19p, (DQ0B)/(DQ0B) (io), V17 IO, DIFFIO_B19n, (DQS0B/CQ0B,DPCLK5)/(DQS0B/CQ0B,DPCLK5) (io), V18 IO, DIFFIO_B20n (io)
part C pins: K15 IO, DIFFIO_R9p, (DQ1R)/(DQ0R) (io), K16 IO, DIFFIO_R9n, (DQ1R)/(DQ0R) (io), L15 IO, (DQS1R/CQ0R#,DPCLK7)/(DQS1R/CQ0R#,DPCLK7) (io), L16 IO, VREFB5N0 (io), L18 IO, DIFFIO_R8n, (DQ1R)/(DQ0R) (io), M16 IO, DIFFIO_R11p (io), M17 IO, DIFFIO_R11n (io), M18 IO, DIFFIO_R8p, (DM1R/BWS#1R)/(DM0R/BWS#0R) (io), N15 IO, RUP3 (io), N16 IO, RDN3 (io), N17 IO, DIFFIO_R10p, (DQ1R)/(DQ0R) (io), N18 IO, DIFFIO_R10n, (DQ1R)/(DQ0R) (io), P16 IO, DIFFIO_R14n, (DQ1R)/(DQ0R) (io), P18 IO, DIFFIO_R12n, (DQ1R)/(DQ0R) (io), R16 IO, DIFFIO_R14p (io), R17 IO, DIFFIO_R13p, (DQ1R)/(DQ0R) (io), R18 IO, DIFFIO_R12p, (DQS3R/CQ1R#,DPCLK6)/(DQS3R/CQ1R#,DPCLK6) (io), T18 IO, DIFFIO_R13n, (DQ1R)/(DQ0R) (io)
part D pins: D17 IO, DIFFIO_R3p, (DQ0R)/(DQ0R) (io), D18 IO, DIFFIO_R3n, (DQS2R/CQ1R,DPCLK9)/(DQS2R/CQ1R,DPCLK9) (io), E15 IO, DIFFIO_R1n, (DQ0R)/(DQ0R) (io), E16 IO, DIFFIO_R2n, (DQ0R)/(DQ0R) (io), E18 IO, DIFFIO_R4n, (DEV_CLRn) (io), F15 IO, DIFFIO_R1p, (DM0R/BWS#0R)/(DM0R/BWS#0R) (io), F16 IO, DIFFIO_R2p, (DQ0R)/(DQ0R) (io), F17 IO, DIFFIO_R6p, (DQS0R/CQ0R,DPCLK8)/(DQS0R/CQ0R,DPCLK8) (io), F18 IO, DIFFIO_R4p, (DQ0R)/(DQ0R) (io), G15 IO, VREFB6N0 (io), G16 IO, DIFFIO_R5p, (DQ0R)/(DQ0R) (io), G17 IO, DIFFIO_R5n, (DQ0R)/(DQ0R) (io), G18 IO, DIFFIO_R6n, (DEV_OE) (io), H16 IO (io), J16 IO, DIFFIO_R7p, (DQ0R)/(DQ0R) (io), J17 IO, DIFFIO_R7n, (DQ0R)/(DQ0R) (io)
part E pins: A13 IO, DIFFIO_T11n, (DQ0T)/(DQ0T) (io), A14 IO, DIFFIO_T13n, (DQS2T/CQ1T,DPCLK11)/(DQS2T/CQ1T,DPCLK11) (io), A15 IO, DIFFIO_T13p (io), A16 IO, DIFFIO_T15n (io), A17 IO, DIFFIO_T18n, (DQ0T)/(DQ0T) (io), A18 IO, DIFFIO_T18p (io), B13 IO, DIFFIO_T11p (io), B15 IO, DIFFIO_T16n, (DQ0T)/(DQ0T) (io), B16 IO, DIFFIO_T15p (io), B18 IO, RDN4 (io), C12 IO, DIFFIO_T14n, (DQ0T)/(DQ0T) (io), C13 IO, DIFFIO_T14p (io), C14 IO, DIFFIO_T17n, (DQS0T/CQ0T,DPCLK10)/(DQS0T/CQ0T,DPCLK10) (io), C15 IO, DIFFIO_T16p, (DQ0T)/(DQ0T) (io), C16 IO, PLL4_CLKOUTn (io), C17 IO, PLL4_CLKOUTp (io), C18 IO, RUP4 (io), D10 IO, DIFFIO_T10n, (DQ0T)/(DQ0T) (io), D11 IO, DIFFIO_T12n, (DQ0T)/(DQ0T) (io), D12 IO, DIFFIO_T12p (io), D13 IO (io), D14 IO, DIFFIO_T17p (io), D15 IO, DIFFIO_T19n, (DQ0T)/(DQ0T) (io), D16 IO, DIFFIO_T19p, (DQ0T)/(DQ0T) (io), E10 IO, DIFFIO_T10p, (DM0T/BWS#0T)/(DM0T/BWS#0T) (io), E12 IO, VREFB7N0 (io)
part F pins: A5 IO, PLL2_CLKOUTn (io), A6 IO, DIFFIO_T2n, (DQ1T)/(DQ0T) (io), A7 IO, DIFFIO_T4n, (DQ1T)/(DQ0T) (io), A8 IO, DIFFIO_T5n, (DQ1T)/(DQ0T) (io), A9 IO, DIFFIO_T5p (io), A10 IO, DIFFIO_T8n, (DQ1T)/(DQ0T) (io), A11 IO, DIFFIO_T8p, (DQ1T)/(DQ0T) (io), B5 IO, PLL2_CLKOUTp (io), B6 IO, DIFFIO_T2p, (DM1T/BWS#1T)/(DM0T/BWS#0T) (io), B7 IO, DIFFIO_T4p, (DQ1T)/(DQ0T) (io), B9 IO, DIFFIO_T7n (io), B10 IO, DIFFIO_T7p, (DQ1T)/(DQ0T) (io), C6 IO, DIFFIO_T1n (io), C7 IO, DIFFIO_T3n (io), C8 IO, (DQS1T/CQ0T#,DPCLK13)/(DQS1T/CQ0T#,DPCLK13) (io), C9 IO, DIFFIO_T6n (io), C10 IO, DIFFIO_T9n, (DQ1T)/(DQ0T) (io), C11 IO, DIFFIO_T9p (io), D6 IO, DIFFIO_T1p (io), D7 IO, DIFFIO_T3p, (DQ1T)/(DQ0T) (io), D8 IO, VREFB8N0 (io), D9 IO, DIFFIO_T6p, (DQS3T/CQ1T#,DPCLK12)/(DQS3T/CQ1T#,DPCLK12) (io), E6 IO, (CLKUSR) (io)
part G pins: A12 CLK8, DIFFCLK_5n (in), B12 CLK9, DIFFCLK_5p (in), G9 CLK10, DIFFCLK_4n,REFCLK1n (in), G10 CLK11, DIFFCLK_4p,REFCLK1p (in), H18 CLK6, DIFFCLK_3n (in), J18 CLK7, DIFFCLK_3p (in), K17 CLK5, DIFFCLK_2p (in), K18 CLK4, DIFFCLK_2n (in), M9 CLK12, DIFFCLK_7p,REFCLK0p (in), M10 CLK13, DIFFCLK_7n,REFCLK0n (in), V11 CLK14, DIFFCLK_6p (in), V12 CLK15, DIFFCLK_6n (in)
part H pins: A4 IO, (DATA0) (io), B4 IO, (ASDO) (io), C4 nCONFIG (in), C5 IO, (NCSO) (io), D3 nCE (in), D4 TDI (in), D5 DCLK (io), E3 TMS (in), E4 TDO (out), E5 TCK (in), P4 MSEL2 (in), R5 MSEL1 (in), T5 MSEL0 (in), U4 CONF_DONE (io), V4 nSTATUS (io)
part I pins: B1 GXB_TX3n (out), B2 GXB_TX3p (out), D1 GXB_RX3n (in), D2 GXB_RX3p (in), F1 GXB_TX2n (out), F2 GXB_TX2p (out), H1 GXB_RX2n (in), H2 GXB_RX2p (in), K1 GXB_TX1n (out), K2 GXB_TX1p (out), M1 GXB_RX1n (in), M2 GXB_RX1p (in), P1 GXB_TX0n (out), P2 GXB_TX0p (out), T1 GXB_RX0n (in), T2 GXB_RX0p (in), V1 RREF0 (in)
part J pins: E7 VCCIO8 (power), E9 VCCIO8 (power), E13 VCCIO7 (power), F4 VCCIO9 (power), F7 VCCINT (power), F8 VCCIO8 (power), F9 VCC_CLKIN8A (power), F10 VCCIO7 (power), F11 VCCIO7 (power), F12 VCCIO7 (power), G4 VCCINT (power), G6 VCCINT (power), G8 VCCINT (power), G12 VCCINT (power), G14 VCCIO6 (power), H5 VCCINT (power), H7 VCCINT (power), H9 VCCINT (power), H11 VCCINT (power), H13 VCCINT (power), H15 VCCIO6 (power), J4 VCCINT (power), J6 VCCINT (power), J8 VCCINT (power), J10 VCCINT (power), J12 VCCINT (power), J14 VCCINT (power), J15 VCCIO6 (power), K5 VCCINT (power), K7 VCCINT (power), K9 VCCINT (power), K11 VCCINT (power), K13 VCCINT (power), K14 VCCIO5 (power), L4 VCCINT (power), L8 VCCINT (power), L10 VCCINT (power), L12 VCCINT (power), M11 VCCINT (power), M15 VCCIO5 (power), N4 VCCINT (power), N8 VCCIO3 (power), N9 VCC_CLKIN3A (power), N11 VCCIO4 (power), N12 VCCIO4 (power), N13 VCCIO4 (power), N14 VCCIO4 (power), P7 VCCIO3 (power), P9 VCCIO3 (power)
part K pins: A1 GND (power), A2 GND (power), A3 GND (power), B3 GND (power), B8 GND (power), B11 GND (power), B14 GND (power), B17 GND (power), C1 GND (power), C2 GND (power), C3 GND (power), E1 GND (power), E2 GND (power), E8 GND (power), E11 GND (power), E14 GND (power), E17 GND (power), F5 GND (power), F13 GND (power), G1 GND (power), G2 GND (power), G7 GND (power), G11 GND (power), H4 GND (power), H6 GND (power), H8 GND (power), H10 GND (power), H12 GND (power), H14 GND (power), H17 GND (power), J1 GND (power), J2 GND (power), J5 GND (power), J7 GND (power), J9 GND (power), J11 GND (power), J13 GND (power), K4 GND (power), K6 GND (power), K8 GND (power), K10 GND (power), K12 GND (power), L1 GND (power), L2 GND (power), L5 GND (power), L7 GND (power), L9 GND (power), L11 GND (power), L14 GND (power), L17 GND (power), M4 GND (power), M6 GND (power), M8 GND (power), M12 GND (power), M13 GND (power), N1 GND (power), N2 GND (power), N10 GND (power), P3 GND (power), P5 GND (power), P8 GND (power), P11 GND (power), P14 GND (power), P17 GND (power), R1 GND (power), R2 GND (power), R3 GND (power), T3 GND (power), U1 GND (power), U2 GND (power), U5 GND (power), U8 GND (power), U11 GND (power), U14 GND (power), U17 GND (power), V2 GND (power)
part L pins: F3 VCCL_GXB (power), F6 VCCD_PLL (power), F14 VCCD_PLL (power), G3 VCCH_GXB (power), G5 VCCA (power), G13 VCCA (power), H3 VCCL_GXB (power), J3 VCCA_GXB (power), K3 VCCL_GXB (power), L3 VCCH_GXB (power), L6 VCCA (power), L13 VCCA (power), M3 VCCL_GXB (power), M5 VCCD_PLL (power), M14 VCCD_PLL (power), N3 VCCA_GXB (power), R4 VCCL_GXB (power), T4 VCCA_GXB (power)
part M pins: U3 NC, V3 NC
part A text: BANK 3
part B text: BANK 4
part C text: BANK 5
part D text: BANK 6
part E text: BANK 7
part F text: BANK 8

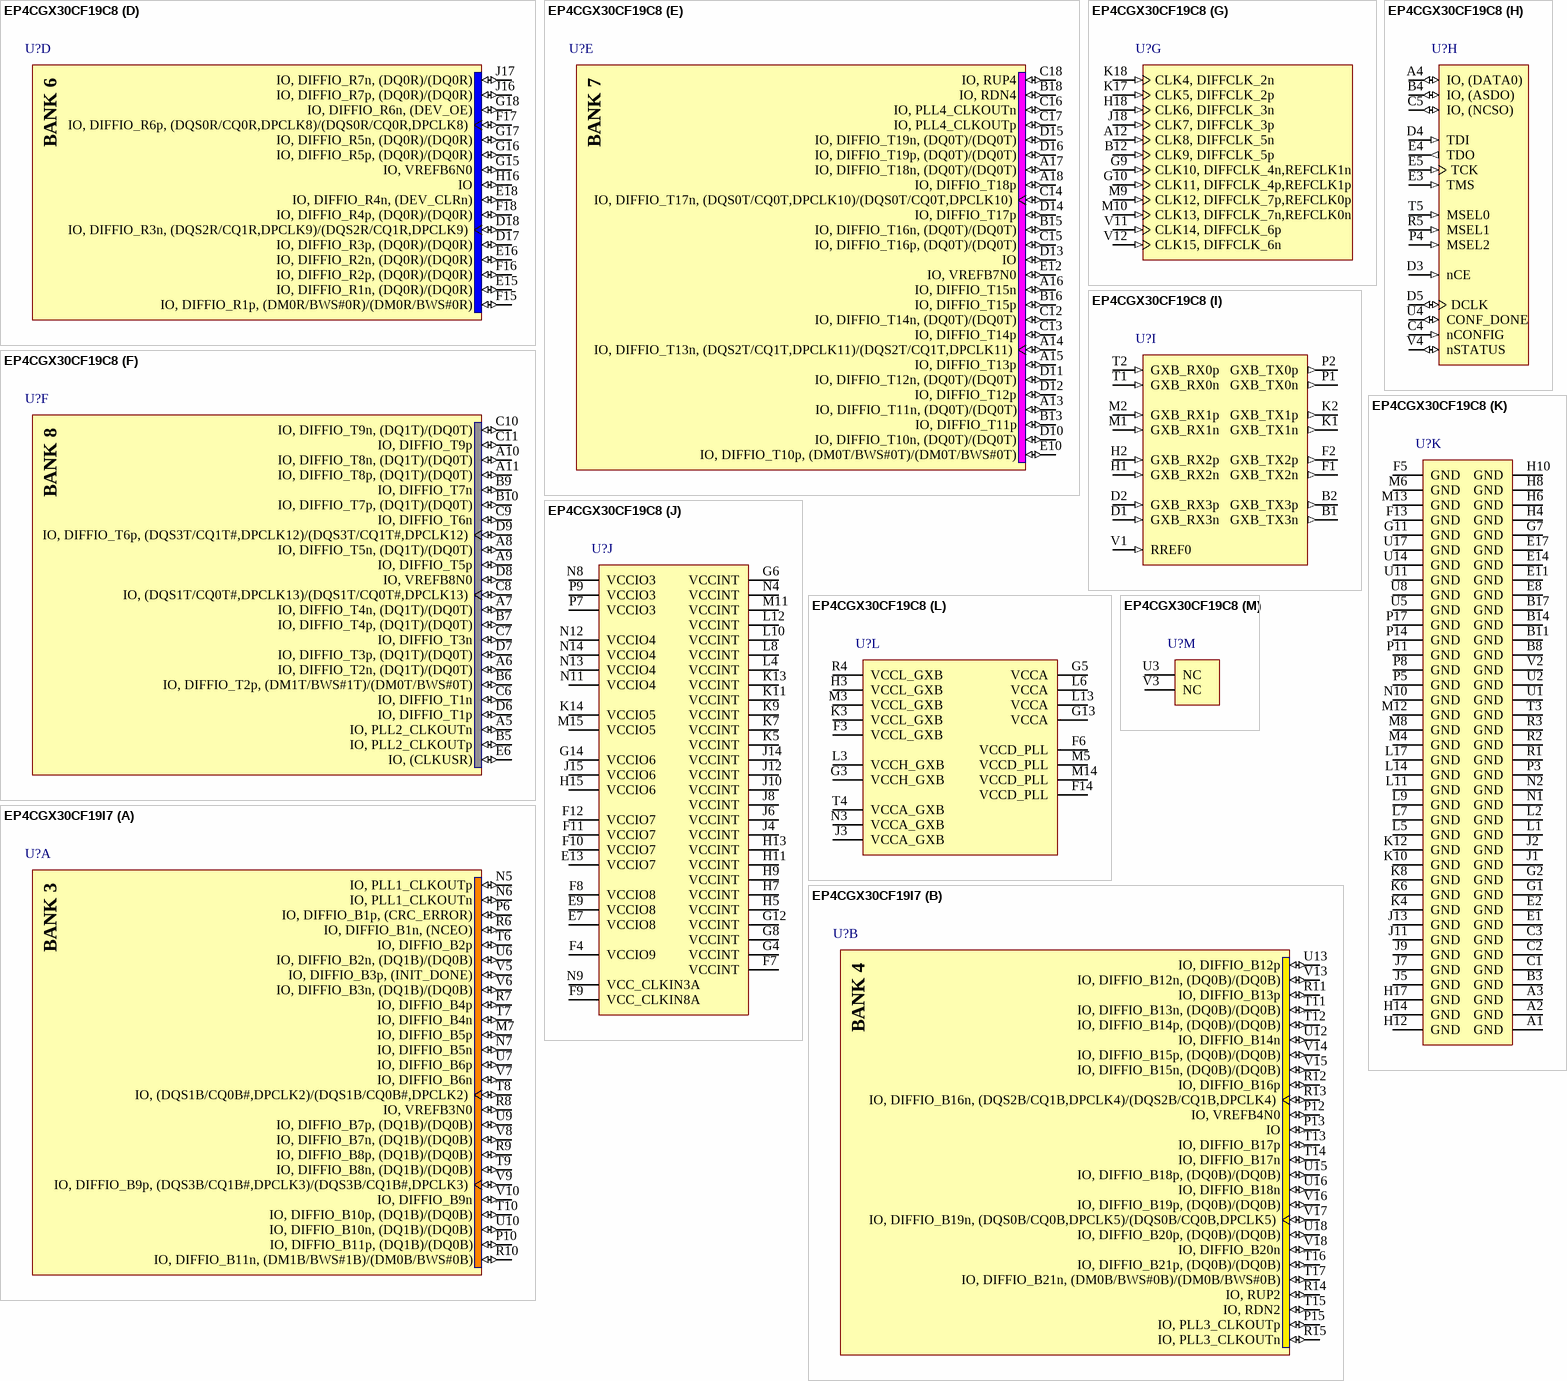
[diagram p15: symbols EP4CGX30CF19C8 to EP4CGX30CF19I7]

## EP4CGX30CF19C8
designator U?
Cyclone IV Family FPGA, 2V Core, 150 I/O Pins, 4 PLLs, 4 High-Speed Transceivers, 324-Pin FBGA, Speed Grade 8, Commercial Grade; Published: 3-May-2010; DatasheetVersion: ver1.2, Mar-2010; PackageVersion: ver16.0, Dec-2009; PackageReference: FBGA324; Publisher: Altium Limited; PackageDescription: 324-Ball FineLine Ball Grid Array (FBGA324) - Wire Bond; Code_JEDEC: MS-034-AAG-1; Code_IPC: BGA100P18X18-324; ComponentLink1Description: Manufacturer Link; ComponentLink1URL: http://www.altera.com/; ComponentLink2Description: Handbook; ComponentLink2URL: http://www.altera.com/literature/hb/cyclone-iv/cyclone4-handbook.pdf; ComponentLink3Description: Pinout Specification; ComponentLink3URL: http://www.altera.com/literature/lit-dp.jsp?category=cyc%204&showspreadsheet=y; ComponentLink4Description: Packaging Specification; ComponentLink4URL: http://www.altera.com/literature/ds/dspkg.pdf
footprint FBGA324 (BGA, 324-Leads, Body 19x19mm, Pitch 1mm)
signal-integrity model EP4CGX_F324 (Cyclone IV)
part A pins: M7 IO, DIFFIO_B5p (io), N5 IO, PLL1_CLKOUTp (io), N6 IO, PLL1_CLKOUTn (io), N7 IO, DIFFIO_B5n (io), P6 IO, DIFFIO_B1p, (CRC_ERROR) (io), P10 IO, DIFFIO_B11p, (DQ1B)/(DQ0B) (io), R6 IO, DIFFIO_B1n, (NCEO) (io), R7 IO, DIFFIO_B4p (io), R8 IO, VREFB3N0 (io), R9 IO, DIFFIO_B8p, (DQ1B)/(DQ0B) (io), R10 IO, DIFFIO_B11n, (DM1B/BWS#1B)/(DM0B/BWS#0B) (io), T6 IO, DIFFIO_B2p (io), T7 IO, DIFFIO_B4n (io), T8 IO, (DQS1B/CQ0B#,DPCLK2)/(DQS1B/CQ0B#,DPCLK2) (io), T9 IO, DIFFIO_B8n, (DQ1B)/(DQ0B) (io), T10 IO, DIFFIO_B10p, (DQ1B)/(DQ0B) (io), U6 IO, DIFFIO_B2n, (DQ1B)/(DQ0B) (io), U7 IO, DIFFIO_B6p (io), U9 IO, DIFFIO_B7p, (DQ1B)/(DQ0B) (io), U10 IO, DIFFIO_B10n, (DQ1B)/(DQ0B) (io), V5 IO, DIFFIO_B3p, (INIT_DONE) (io), V6 IO, DIFFIO_B3n, (DQ1B)/(DQ0B) (io), V7 IO, DIFFIO_B6n (io), V8 IO, DIFFIO_B7n, (DQ1B)/(DQ0B) (io), V9 IO, DIFFIO_B9p, (DQS3B/CQ1B#,DPCLK3)/(DQS3B/CQ1B#,DPCLK3) (io), V10 IO, DIFFIO_B9n (io)
part B pins: P12 IO, VREFB4N0 (io), P13 IO (io), P15 IO, PLL3_CLKOUTp (io), R11 IO, DIFFIO_B13p (io), R12 IO, DIFFIO_B16p (io), R13 IO, DIFFIO_B16n, (DQS2B/CQ1B,DPCLK4)/(DQS2B/CQ1B,DPCLK4) (io), R14 IO, RUP2 (io), R15 IO, PLL3_CLKOUTn (io), T11 IO, DIFFIO_B13n, (DQ0B)/(DQ0B) (io), T12 IO, DIFFIO_B14p, (DQ0B)/(DQ0B) (io), T13 IO, DIFFIO_B17p (io), T14 IO, DIFFIO_B17n (io), T15 IO, RDN2 (io), T16 IO, DIFFIO_B21p, (DQ0B)/(DQ0B) (io), T17 IO, DIFFIO_B21n, (DM0B/BWS#0B)/(DM0B/BWS#0B) (io), U12 IO, DIFFIO_B14n (io), U13 IO, DIFFIO_B12p (io), U15 IO, DIFFIO_B18p, (DQ0B)/(DQ0B) (io), U16 IO, DIFFIO_B18n (io), U18 IO, DIFFIO_B20p, (DQ0B)/(DQ0B) (io), V13 IO, DIFFIO_B12n, (DQ0B)/(DQ0B) (io), V14 IO, DIFFIO_B15p, (DQ0B)/(DQ0B) (io), V15 IO, DIFFIO_B15n, (DQ0B)/(DQ0B) (io), V16 IO, DIFFIO_B19p, (DQ0B)/(DQ0B) (io), V17 IO, DIFFIO_B19n, (DQS0B/CQ0B,DPCLK5)/(DQS0B/CQ0B,DPCLK5) (io), V18 IO, DIFFIO_B20n (io)
part C pins: K15 IO, DIFFIO_R9p, (DQ1R)/(DQ0R) (io), K16 IO, DIFFIO_R9n, (DQ1R)/(DQ0R) (io), L15 IO, (DQS1R/CQ0R#,DPCLK7)/(DQS1R/CQ0R#,DPCLK7) (io), L16 IO, VREFB5N0 (io), L18 IO, DIFFIO_R8n, (DQ1R)/(DQ0R) (io), M16 IO, DIFFIO_R11p (io), M17 IO, DIFFIO_R11n (io), M18 IO, DIFFIO_R8p, (DM1R/BWS#1R)/(DM0R/BWS#0R) (io), N15 IO, RUP3 (io), N16 IO, RDN3 (io), N17 IO, DIFFIO_R10p, (DQ1R)/(DQ0R) (io), N18 IO, DIFFIO_R10n, (DQ1R)/(DQ0R) (io), P16 IO, DIFFIO_R14n, (DQ1R)/(DQ0R) (io), P18 IO, DIFFIO_R12n, (DQ1R)/(DQ0R) (io), R16 IO, DIFFIO_R14p (io), R17 IO, DIFFIO_R13p, (DQ1R)/(DQ0R) (io), R18 IO, DIFFIO_R12p, (DQS3R/CQ1R#,DPCLK6)/(DQS3R/CQ1R#,DPCLK6) (io), T18 IO, DIFFIO_R13n, (DQ1R)/(DQ0R) (io)
part D pins: D17 IO, DIFFIO_R3p, (DQ0R)/(DQ0R) (io), D18 IO, DIFFIO_R3n, (DQS2R/CQ1R,DPCLK9)/(DQS2R/CQ1R,DPCLK9) (io), E15 IO, DIFFIO_R1n, (DQ0R)/(DQ0R) (io), E16 IO, DIFFIO_R2n, (DQ0R)/(DQ0R) (io), E18 IO, DIFFIO_R4n, (DEV_CLRn) (io), F15 IO, DIFFIO_R1p, (DM0R/BWS#0R)/(DM0R/BWS#0R) (io), F16 IO, DIFFIO_R2p, (DQ0R)/(DQ0R) (io), F17 IO, DIFFIO_R6p, (DQS0R/CQ0R,DPCLK8)/(DQS0R/CQ0R,DPCLK8) (io), F18 IO, DIFFIO_R4p, (DQ0R)/(DQ0R) (io), G15 IO, VREFB6N0 (io), G16 IO, DIFFIO_R5p, (DQ0R)/(DQ0R) (io), G17 IO, DIFFIO_R5n, (DQ0R)/(DQ0R) (io), G18 IO, DIFFIO_R6n, (DEV_OE) (io), H16 IO (io), J16 IO, DIFFIO_R7p, (DQ0R)/(DQ0R) (io), J17 IO, DIFFIO_R7n, (DQ0R)/(DQ0R) (io)
part E pins: A13 IO, DIFFIO_T11n, (DQ0T)/(DQ0T) (io), A14 IO, DIFFIO_T13n, (DQS2T/CQ1T,DPCLK11)/(DQS2T/CQ1T,DPCLK11) (io), A15 IO, DIFFIO_T13p (io), A16 IO, DIFFIO_T15n (io), A17 IO, DIFFIO_T18n, (DQ0T)/(DQ0T) (io), A18 IO, DIFFIO_T18p (io), B13 IO, DIFFIO_T11p (io), B15 IO, DIFFIO_T16n, (DQ0T)/(DQ0T) (io), B16 IO, DIFFIO_T15p (io), B18 IO, RDN4 (io), C12 IO, DIFFIO_T14n, (DQ0T)/(DQ0T) (io), C13 IO, DIFFIO_T14p (io), C14 IO, DIFFIO_T17n, (DQS0T/CQ0T,DPCLK10)/(DQS0T/CQ0T,DPCLK10) (io), C15 IO, DIFFIO_T16p, (DQ0T)/(DQ0T) (io), C16 IO, PLL4_CLKOUTn (io), C17 IO, PLL4_CLKOUTp (io), C18 IO, RUP4 (io), D10 IO, DIFFIO_T10n, (DQ0T)/(DQ0T) (io), D11 IO, DIFFIO_T12n, (DQ0T)/(DQ0T) (io), D12 IO, DIFFIO_T12p (io), D13 IO (io), D14 IO, DIFFIO_T17p (io), D15 IO, DIFFIO_T19n, (DQ0T)/(DQ0T) (io), D16 IO, DIFFIO_T19p, (DQ0T)/(DQ0T) (io), E10 IO, DIFFIO_T10p, (DM0T/BWS#0T)/(DM0T/BWS#0T) (io), E12 IO, VREFB7N0 (io)
part F pins: A5 IO, PLL2_CLKOUTn (io), A6 IO, DIFFIO_T2n, (DQ1T)/(DQ0T) (io), A7 IO, DIFFIO_T4n, (DQ1T)/(DQ0T) (io), A8 IO, DIFFIO_T5n, (DQ1T)/(DQ0T) (io), A9 IO, DIFFIO_T5p (io), A10 IO, DIFFIO_T8n, (DQ1T)/(DQ0T) (io), A11 IO, DIFFIO_T8p, (DQ1T)/(DQ0T) (io), B5 IO, PLL2_CLKOUTp (io), B6 IO, DIFFIO_T2p, (DM1T/BWS#1T)/(DM0T/BWS#0T) (io), B7 IO, DIFFIO_T4p, (DQ1T)/(DQ0T) (io), B9 IO, DIFFIO_T7n (io), B10 IO, DIFFIO_T7p, (DQ1T)/(DQ0T) (io), C6 IO, DIFFIO_T1n (io), C7 IO, DIFFIO_T3n (io), C8 IO, (DQS1T/CQ0T#,DPCLK13)/(DQS1T/CQ0T#,DPCLK13) (io), C9 IO, DIFFIO_T6n (io), C10 IO, DIFFIO_T9n, (DQ1T)/(DQ0T) (io), C11 IO, DIFFIO_T9p (io), D6 IO, DIFFIO_T1p (io), D7 IO, DIFFIO_T3p, (DQ1T)/(DQ0T) (io), D8 IO, VREFB8N0 (io), D9 IO, DIFFIO_T6p, (DQS3T/CQ1T#,DPCLK12)/(DQS3T/CQ1T#,DPCLK12) (io), E6 IO, (CLKUSR) (io)
part G pins: A12 CLK8, DIFFCLK_5n (in), B12 CLK9, DIFFCLK_5p (in), G9 CLK10, DIFFCLK_4n,REFCLK1n (in), G10 CLK11, DIFFCLK_4p,REFCLK1p (in), H18 CLK6, DIFFCLK_3n (in), J18 CLK7, DIFFCLK_3p (in), K17 CLK5, DIFFCLK_2p (in), K18 CLK4, DIFFCLK_2n (in), M9 CLK12, DIFFCLK_7p,REFCLK0p (in), M10 CLK13, DIFFCLK_7n,REFCLK0n (in), V11 CLK14, DIFFCLK_6p (in), V12 CLK15, DIFFCLK_6n (in)
part H pins: A4 IO, (DATA0) (io), B4 IO, (ASDO) (io), C4 nCONFIG (in), C5 IO, (NCSO) (io), D3 nCE (in), D4 TDI (in), D5 DCLK (io), E3 TMS (in), E4 TDO (out), E5 TCK (in), P4 MSEL2 (in), R5 MSEL1 (in), T5 MSEL0 (in), U4 CONF_DONE (io), V4 nSTATUS (io)
part I pins: B1 GXB_TX3n (out), B2 GXB_TX3p (out), D1 GXB_RX3n (in), D2 GXB_RX3p (in), F1 GXB_TX2n (out), F2 GXB_TX2p (out), H1 GXB_RX2n (in), H2 GXB_RX2p (in), K1 GXB_TX1n (out), K2 GXB_TX1p (out), M1 GXB_RX1n (in), M2 GXB_RX1p (in), P1 GXB_TX0n (out), P2 GXB_TX0p (out), T1 GXB_RX0n (in), T2 GXB_RX0p (in), V1 RREF0 (in)
part J pins: E7 VCCIO8 (power), E9 VCCIO8 (power), E13 VCCIO7 (power), F4 VCCIO9 (power), F7 VCCINT (power), F8 VCCIO8 (power), F9 VCC_CLKIN8A (power), F10 VCCIO7 (power), F11 VCCIO7 (power), F12 VCCIO7 (power), G4 VCCINT (power), G6 VCCINT (power), G8 VCCINT (power), G12 VCCINT (power), G14 VCCIO6 (power), H5 VCCINT (power), H7 VCCINT (power), H9 VCCINT (power), H11 VCCINT (power), H13 VCCINT (power), H15 VCCIO6 (power), J4 VCCINT (power), J6 VCCINT (power), J8 VCCINT (power), J10 VCCINT (power), J12 VCCINT (power), J14 VCCINT (power), J15 VCCIO6 (power), K5 VCCINT (power), K7 VCCINT (power), K9 VCCINT (power), K11 VCCINT (power), K13 VCCINT (power), K14 VCCIO5 (power), L4 VCCINT (power), L8 VCCINT (power), L10 VCCINT (power), L12 VCCINT (power), M11 VCCINT (power), M15 VCCIO5 (power), N4 VCCINT (power), N8 VCCIO3 (power), N9 VCC_CLKIN3A (power), N11 VCCIO4 (power), N12 VCCIO4 (power), N13 VCCIO4 (power), N14 VCCIO4 (power), P7 VCCIO3 (power), P9 VCCIO3 (power)
part K pins: A1 GND (power), A2 GND (power), A3 GND (power), B3 GND (power), B8 GND (power), B11 GND (power), B14 GND (power), B17 GND (power), C1 GND (power), C2 GND (power), C3 GND (power), E1 GND (power), E2 GND (power), E8 GND (power), E11 GND (power), E14 GND (power), E17 GND (power), F5 GND (power), F13 GND (power), G1 GND (power), G2 GND (power), G7 GND (power), G11 GND (power), H4 GND (power), H6 GND (power), H8 GND (power), H10 GND (power), H12 GND (power), H14 GND (power), H17 GND (power), J1 GND (power), J2 GND (power), J5 GND (power), J7 GND (power), J9 GND (power), J11 GND (power), J13 GND (power), K4 GND (power), K6 GND (power), K8 GND (power), K10 GND (power), K12 GND (power), L1 GND (power), L2 GND (power), L5 GND (power), L7 GND (power), L9 GND (power), L11 GND (power), L14 GND (power), L17 GND (power), M4 GND (power), M6 GND (power), M8 GND (power), M12 GND (power), M13 GND (power), N1 GND (power), N2 GND (power), N10 GND (power), P3 GND (power), P5 GND (power), P8 GND (power), P11 GND (power), P14 GND (power), P17 GND (power), R1 GND (power), R2 GND (power), R3 GND (power), T3 GND (power), U1 GND (power), U2 GND (power), U5 GND (power), U8 GND (power), U11 GND (power), U14 GND (power), U17 GND (power), V2 GND (power)
part L pins: F3 VCCL_GXB (power), F6 VCCD_PLL (power), F14 VCCD_PLL (power), G3 VCCH_GXB (power), G5 VCCA (power), G13 VCCA (power), H3 VCCL_GXB (power), J3 VCCA_GXB (power), K3 VCCL_GXB (power), L3 VCCH_GXB (power), L6 VCCA (power), L13 VCCA (power), M3 VCCL_GXB (power), M5 VCCD_PLL (power), M14 VCCD_PLL (power), N3 VCCA_GXB (power), R4 VCCL_GXB (power), T4 VCCA_GXB (power)
part M pins: U3 NC, V3 NC
part A text: BANK 3
part B text: BANK 4
part C text: BANK 5
part D text: BANK 6
part E text: BANK 7
part F text: BANK 8

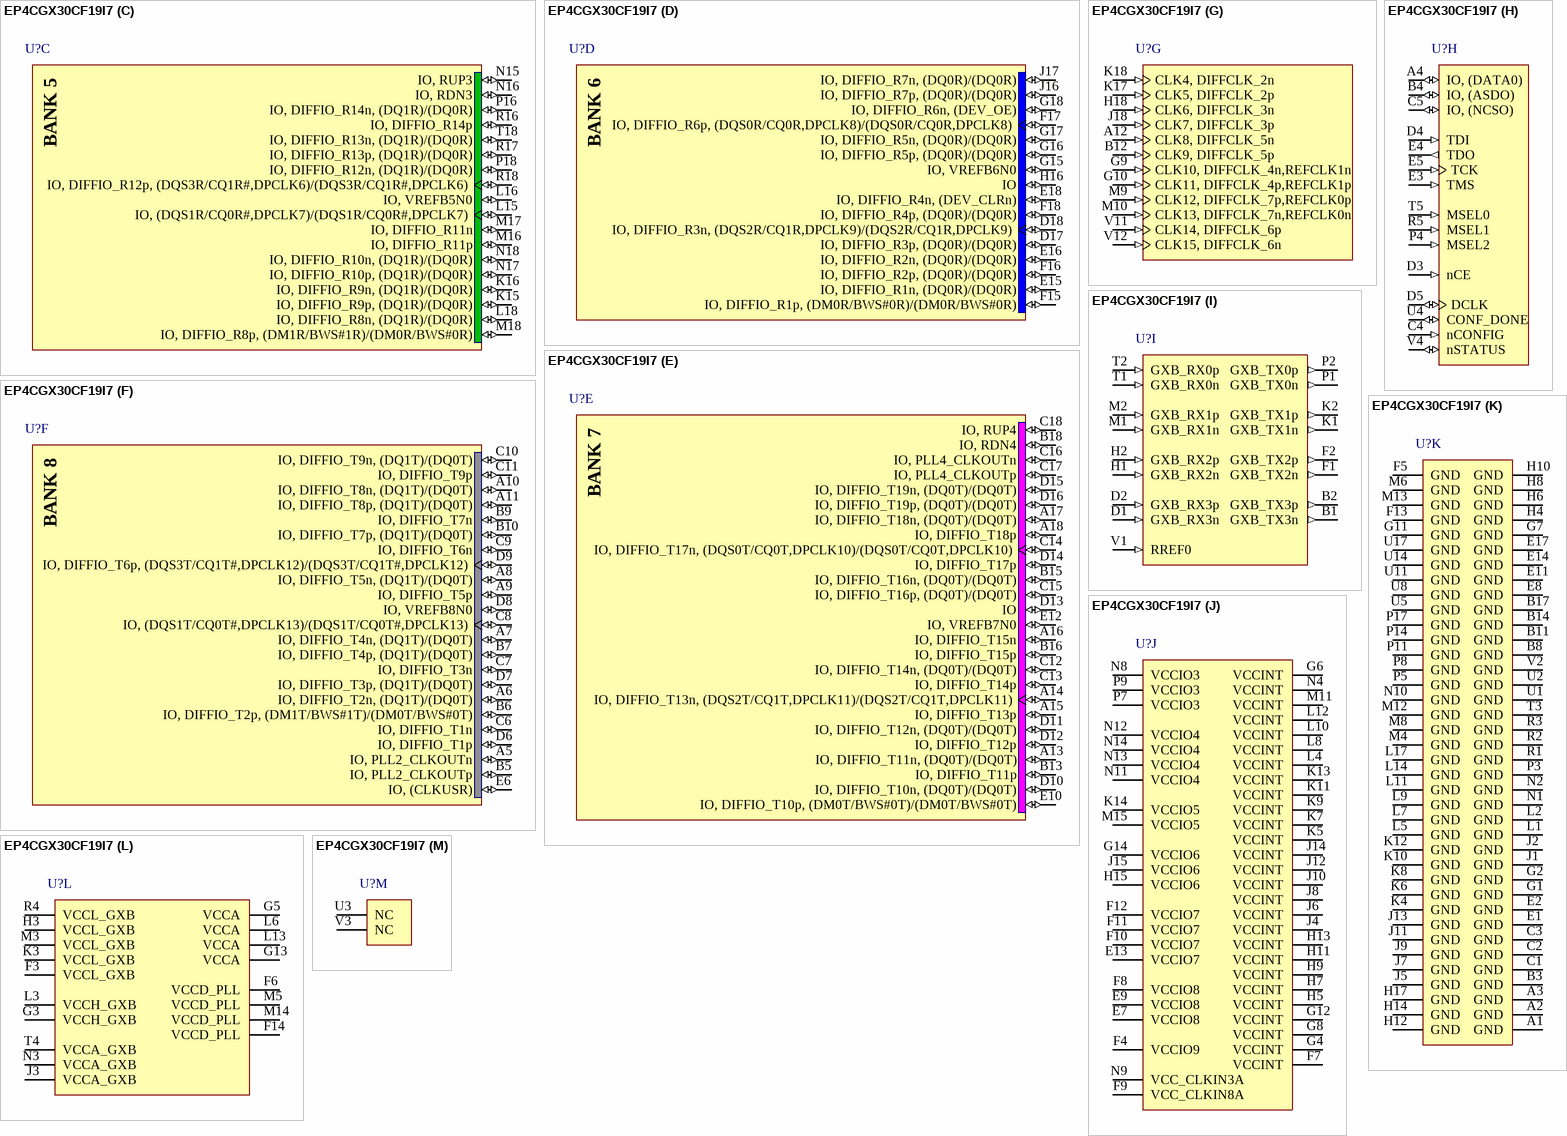
[diagram p16: symbol EP4CGX30CF19I7]

## EP4CGX30CF19I7
designator U?
Cyclone IV Family FPGA, 2V Core, 150 I/O Pins, 4 PLLs, 4 High-Speed Transceivers, 324-Pin FBGA, Speed Grade 7, Industrial Grade; Published: 3-May-2010; DatasheetVersion: ver1.2, Mar-2010; PackageVersion: ver16.0, Dec-2009; PackageReference: FBGA324; Publisher: Altium Limited; PackageDescription: 324-Ball FineLine Ball Grid Array (FBGA324) - Wire Bond; Code_JEDEC: MS-034-AAG-1; Code_IPC: BGA100P18X18-324; ComponentLink1Description: Manufacturer Link; ComponentLink1URL: http://www.altera.com/; ComponentLink2Description: Handbook; ComponentLink2URL: http://www.altera.com/literature/hb/cyclone-iv/cyclone4-handbook.pdf; ComponentLink3Description: Pinout Specification; ComponentLink3URL: http://www.altera.com/literature/lit-dp.jsp?category=cyc%204&showspreadsheet=y; ComponentLink4Description: Packaging Specification; ComponentLink4URL: http://www.altera.com/literature/ds/dspkg.pdf
footprint FBGA324 (BGA, 324-Leads, Body 19x19mm, Pitch 1mm)
signal-integrity model EP4CGX_F324 (Cyclone IV)
part A pins: M7 IO, DIFFIO_B5p (io), N5 IO, PLL1_CLKOUTp (io), N6 IO, PLL1_CLKOUTn (io), N7 IO, DIFFIO_B5n (io), P6 IO, DIFFIO_B1p, (CRC_ERROR) (io), P10 IO, DIFFIO_B11p, (DQ1B)/(DQ0B) (io), R6 IO, DIFFIO_B1n, (NCEO) (io), R7 IO, DIFFIO_B4p (io), R8 IO, VREFB3N0 (io), R9 IO, DIFFIO_B8p, (DQ1B)/(DQ0B) (io), R10 IO, DIFFIO_B11n, (DM1B/BWS#1B)/(DM0B/BWS#0B) (io), T6 IO, DIFFIO_B2p (io), T7 IO, DIFFIO_B4n (io), T8 IO, (DQS1B/CQ0B#,DPCLK2)/(DQS1B/CQ0B#,DPCLK2) (io), T9 IO, DIFFIO_B8n, (DQ1B)/(DQ0B) (io), T10 IO, DIFFIO_B10p, (DQ1B)/(DQ0B) (io), U6 IO, DIFFIO_B2n, (DQ1B)/(DQ0B) (io), U7 IO, DIFFIO_B6p (io), U9 IO, DIFFIO_B7p, (DQ1B)/(DQ0B) (io), U10 IO, DIFFIO_B10n, (DQ1B)/(DQ0B) (io), V5 IO, DIFFIO_B3p, (INIT_DONE) (io), V6 IO, DIFFIO_B3n, (DQ1B)/(DQ0B) (io), V7 IO, DIFFIO_B6n (io), V8 IO, DIFFIO_B7n, (DQ1B)/(DQ0B) (io), V9 IO, DIFFIO_B9p, (DQS3B/CQ1B#,DPCLK3)/(DQS3B/CQ1B#,DPCLK3) (io), V10 IO, DIFFIO_B9n (io)
part B pins: P12 IO, VREFB4N0 (io), P13 IO (io), P15 IO, PLL3_CLKOUTp (io), R11 IO, DIFFIO_B13p (io), R12 IO, DIFFIO_B16p (io), R13 IO, DIFFIO_B16n, (DQS2B/CQ1B,DPCLK4)/(DQS2B/CQ1B,DPCLK4) (io), R14 IO, RUP2 (io), R15 IO, PLL3_CLKOUTn (io), T11 IO, DIFFIO_B13n, (DQ0B)/(DQ0B) (io), T12 IO, DIFFIO_B14p, (DQ0B)/(DQ0B) (io), T13 IO, DIFFIO_B17p (io), T14 IO, DIFFIO_B17n (io), T15 IO, RDN2 (io), T16 IO, DIFFIO_B21p, (DQ0B)/(DQ0B) (io), T17 IO, DIFFIO_B21n, (DM0B/BWS#0B)/(DM0B/BWS#0B) (io), U12 IO, DIFFIO_B14n (io), U13 IO, DIFFIO_B12p (io), U15 IO, DIFFIO_B18p, (DQ0B)/(DQ0B) (io), U16 IO, DIFFIO_B18n (io), U18 IO, DIFFIO_B20p, (DQ0B)/(DQ0B) (io), V13 IO, DIFFIO_B12n, (DQ0B)/(DQ0B) (io), V14 IO, DIFFIO_B15p, (DQ0B)/(DQ0B) (io), V15 IO, DIFFIO_B15n, (DQ0B)/(DQ0B) (io), V16 IO, DIFFIO_B19p, (DQ0B)/(DQ0B) (io), V17 IO, DIFFIO_B19n, (DQS0B/CQ0B,DPCLK5)/(DQS0B/CQ0B,DPCLK5) (io), V18 IO, DIFFIO_B20n (io)
part C pins: K15 IO, DIFFIO_R9p, (DQ1R)/(DQ0R) (io), K16 IO, DIFFIO_R9n, (DQ1R)/(DQ0R) (io), L15 IO, (DQS1R/CQ0R#,DPCLK7)/(DQS1R/CQ0R#,DPCLK7) (io), L16 IO, VREFB5N0 (io), L18 IO, DIFFIO_R8n, (DQ1R)/(DQ0R) (io), M16 IO, DIFFIO_R11p (io), M17 IO, DIFFIO_R11n (io), M18 IO, DIFFIO_R8p, (DM1R/BWS#1R)/(DM0R/BWS#0R) (io), N15 IO, RUP3 (io), N16 IO, RDN3 (io), N17 IO, DIFFIO_R10p, (DQ1R)/(DQ0R) (io), N18 IO, DIFFIO_R10n, (DQ1R)/(DQ0R) (io), P16 IO, DIFFIO_R14n, (DQ1R)/(DQ0R) (io), P18 IO, DIFFIO_R12n, (DQ1R)/(DQ0R) (io), R16 IO, DIFFIO_R14p (io), R17 IO, DIFFIO_R13p, (DQ1R)/(DQ0R) (io), R18 IO, DIFFIO_R12p, (DQS3R/CQ1R#,DPCLK6)/(DQS3R/CQ1R#,DPCLK6) (io), T18 IO, DIFFIO_R13n, (DQ1R)/(DQ0R) (io)
part D pins: D17 IO, DIFFIO_R3p, (DQ0R)/(DQ0R) (io), D18 IO, DIFFIO_R3n, (DQS2R/CQ1R,DPCLK9)/(DQS2R/CQ1R,DPCLK9) (io), E15 IO, DIFFIO_R1n, (DQ0R)/(DQ0R) (io), E16 IO, DIFFIO_R2n, (DQ0R)/(DQ0R) (io), E18 IO, DIFFIO_R4n, (DEV_CLRn) (io), F15 IO, DIFFIO_R1p, (DM0R/BWS#0R)/(DM0R/BWS#0R) (io), F16 IO, DIFFIO_R2p, (DQ0R)/(DQ0R) (io), F17 IO, DIFFIO_R6p, (DQS0R/CQ0R,DPCLK8)/(DQS0R/CQ0R,DPCLK8) (io), F18 IO, DIFFIO_R4p, (DQ0R)/(DQ0R) (io), G15 IO, VREFB6N0 (io), G16 IO, DIFFIO_R5p, (DQ0R)/(DQ0R) (io), G17 IO, DIFFIO_R5n, (DQ0R)/(DQ0R) (io), G18 IO, DIFFIO_R6n, (DEV_OE) (io), H16 IO (io), J16 IO, DIFFIO_R7p, (DQ0R)/(DQ0R) (io), J17 IO, DIFFIO_R7n, (DQ0R)/(DQ0R) (io)
part E pins: A13 IO, DIFFIO_T11n, (DQ0T)/(DQ0T) (io), A14 IO, DIFFIO_T13n, (DQS2T/CQ1T,DPCLK11)/(DQS2T/CQ1T,DPCLK11) (io), A15 IO, DIFFIO_T13p (io), A16 IO, DIFFIO_T15n (io), A17 IO, DIFFIO_T18n, (DQ0T)/(DQ0T) (io), A18 IO, DIFFIO_T18p (io), B13 IO, DIFFIO_T11p (io), B15 IO, DIFFIO_T16n, (DQ0T)/(DQ0T) (io), B16 IO, DIFFIO_T15p (io), B18 IO, RDN4 (io), C12 IO, DIFFIO_T14n, (DQ0T)/(DQ0T) (io), C13 IO, DIFFIO_T14p (io), C14 IO, DIFFIO_T17n, (DQS0T/CQ0T,DPCLK10)/(DQS0T/CQ0T,DPCLK10) (io), C15 IO, DIFFIO_T16p, (DQ0T)/(DQ0T) (io), C16 IO, PLL4_CLKOUTn (io), C17 IO, PLL4_CLKOUTp (io), C18 IO, RUP4 (io), D10 IO, DIFFIO_T10n, (DQ0T)/(DQ0T) (io), D11 IO, DIFFIO_T12n, (DQ0T)/(DQ0T) (io), D12 IO, DIFFIO_T12p (io), D13 IO (io), D14 IO, DIFFIO_T17p (io), D15 IO, DIFFIO_T19n, (DQ0T)/(DQ0T) (io), D16 IO, DIFFIO_T19p, (DQ0T)/(DQ0T) (io), E10 IO, DIFFIO_T10p, (DM0T/BWS#0T)/(DM0T/BWS#0T) (io), E12 IO, VREFB7N0 (io)
part F pins: A5 IO, PLL2_CLKOUTn (io), A6 IO, DIFFIO_T2n, (DQ1T)/(DQ0T) (io), A7 IO, DIFFIO_T4n, (DQ1T)/(DQ0T) (io), A8 IO, DIFFIO_T5n, (DQ1T)/(DQ0T) (io), A9 IO, DIFFIO_T5p (io), A10 IO, DIFFIO_T8n, (DQ1T)/(DQ0T) (io), A11 IO, DIFFIO_T8p, (DQ1T)/(DQ0T) (io), B5 IO, PLL2_CLKOUTp (io), B6 IO, DIFFIO_T2p, (DM1T/BWS#1T)/(DM0T/BWS#0T) (io), B7 IO, DIFFIO_T4p, (DQ1T)/(DQ0T) (io), B9 IO, DIFFIO_T7n (io), B10 IO, DIFFIO_T7p, (DQ1T)/(DQ0T) (io), C6 IO, DIFFIO_T1n (io), C7 IO, DIFFIO_T3n (io), C8 IO, (DQS1T/CQ0T#,DPCLK13)/(DQS1T/CQ0T#,DPCLK13) (io), C9 IO, DIFFIO_T6n (io), C10 IO, DIFFIO_T9n, (DQ1T)/(DQ0T) (io), C11 IO, DIFFIO_T9p (io), D6 IO, DIFFIO_T1p (io), D7 IO, DIFFIO_T3p, (DQ1T)/(DQ0T) (io), D8 IO, VREFB8N0 (io), D9 IO, DIFFIO_T6p, (DQS3T/CQ1T#,DPCLK12)/(DQS3T/CQ1T#,DPCLK12) (io), E6 IO, (CLKUSR) (io)
part G pins: A12 CLK8, DIFFCLK_5n (in), B12 CLK9, DIFFCLK_5p (in), G9 CLK10, DIFFCLK_4n,REFCLK1n (in), G10 CLK11, DIFFCLK_4p,REFCLK1p (in), H18 CLK6, DIFFCLK_3n (in), J18 CLK7, DIFFCLK_3p (in), K17 CLK5, DIFFCLK_2p (in), K18 CLK4, DIFFCLK_2n (in), M9 CLK12, DIFFCLK_7p,REFCLK0p (in), M10 CLK13, DIFFCLK_7n,REFCLK0n (in), V11 CLK14, DIFFCLK_6p (in), V12 CLK15, DIFFCLK_6n (in)
part H pins: A4 IO, (DATA0) (io), B4 IO, (ASDO) (io), C4 nCONFIG (in), C5 IO, (NCSO) (io), D3 nCE (in), D4 TDI (in), D5 DCLK (io), E3 TMS (in), E4 TDO (out), E5 TCK (in), P4 MSEL2 (in), R5 MSEL1 (in), T5 MSEL0 (in), U4 CONF_DONE (io), V4 nSTATUS (io)
part I pins: B1 GXB_TX3n (out), B2 GXB_TX3p (out), D1 GXB_RX3n (in), D2 GXB_RX3p (in), F1 GXB_TX2n (out), F2 GXB_TX2p (out), H1 GXB_RX2n (in), H2 GXB_RX2p (in), K1 GXB_TX1n (out), K2 GXB_TX1p (out), M1 GXB_RX1n (in), M2 GXB_RX1p (in), P1 GXB_TX0n (out), P2 GXB_TX0p (out), T1 GXB_RX0n (in), T2 GXB_RX0p (in), V1 RREF0 (in)
part J pins: E7 VCCIO8 (power), E9 VCCIO8 (power), E13 VCCIO7 (power), F4 VCCIO9 (power), F7 VCCINT (power), F8 VCCIO8 (power), F9 VCC_CLKIN8A (power), F10 VCCIO7 (power), F11 VCCIO7 (power), F12 VCCIO7 (power), G4 VCCINT (power), G6 VCCINT (power), G8 VCCINT (power), G12 VCCINT (power), G14 VCCIO6 (power), H5 VCCINT (power), H7 VCCINT (power), H9 VCCINT (power), H11 VCCINT (power), H13 VCCINT (power), H15 VCCIO6 (power), J4 VCCINT (power), J6 VCCINT (power), J8 VCCINT (power), J10 VCCINT (power), J12 VCCINT (power), J14 VCCINT (power), J15 VCCIO6 (power), K5 VCCINT (power), K7 VCCINT (power), K9 VCCINT (power), K11 VCCINT (power), K13 VCCINT (power), K14 VCCIO5 (power), L4 VCCINT (power), L8 VCCINT (power), L10 VCCINT (power), L12 VCCINT (power), M11 VCCINT (power), M15 VCCIO5 (power), N4 VCCINT (power), N8 VCCIO3 (power), N9 VCC_CLKIN3A (power), N11 VCCIO4 (power), N12 VCCIO4 (power), N13 VCCIO4 (power), N14 VCCIO4 (power), P7 VCCIO3 (power), P9 VCCIO3 (power)
part K pins: A1 GND (power), A2 GND (power), A3 GND (power), B3 GND (power), B8 GND (power), B11 GND (power), B14 GND (power), B17 GND (power), C1 GND (power), C2 GND (power), C3 GND (power), E1 GND (power), E2 GND (power), E8 GND (power), E11 GND (power), E14 GND (power), E17 GND (power), F5 GND (power), F13 GND (power), G1 GND (power), G2 GND (power), G7 GND (power), G11 GND (power), H4 GND (power), H6 GND (power), H8 GND (power), H10 GND (power), H12 GND (power), H14 GND (power), H17 GND (power), J1 GND (power), J2 GND (power), J5 GND (power), J7 GND (power), J9 GND (power), J11 GND (power), J13 GND (power), K4 GND (power), K6 GND (power), K8 GND (power), K10 GND (power), K12 GND (power), L1 GND (power), L2 GND (power), L5 GND (power), L7 GND (power), L9 GND (power), L11 GND (power), L14 GND (power), L17 GND (power), M4 GND (power), M6 GND (power), M8 GND (power), M12 GND (power), M13 GND (power), N1 GND (power), N2 GND (power), N10 GND (power), P3 GND (power), P5 GND (power), P8 GND (power), P11 GND (power), P14 GND (power), P17 GND (power), R1 GND (power), R2 GND (power), R3 GND (power), T3 GND (power), U1 GND (power), U2 GND (power), U5 GND (power), U8 GND (power), U11 GND (power), U14 GND (power), U17 GND (power), V2 GND (power)
part L pins: F3 VCCL_GXB (power), F6 VCCD_PLL (power), F14 VCCD_PLL (power), G3 VCCH_GXB (power), G5 VCCA (power), G13 VCCA (power), H3 VCCL_GXB (power), J3 VCCA_GXB (power), K3 VCCL_GXB (power), L3 VCCH_GXB (power), L6 VCCA (power), L13 VCCA (power), M3 VCCL_GXB (power), M5 VCCD_PLL (power), M14 VCCD_PLL (power), N3 VCCA_GXB (power), R4 VCCL_GXB (power), T4 VCCA_GXB (power)
part M pins: U3 NC, V3 NC
part A text: BANK 3
part B text: BANK 4
part C text: BANK 5
part D text: BANK 6
part E text: BANK 7
part F text: BANK 8